# Altium integrated library Xilinx CoolRunner II.IntLib: 198 symbols (part 3 of 13)
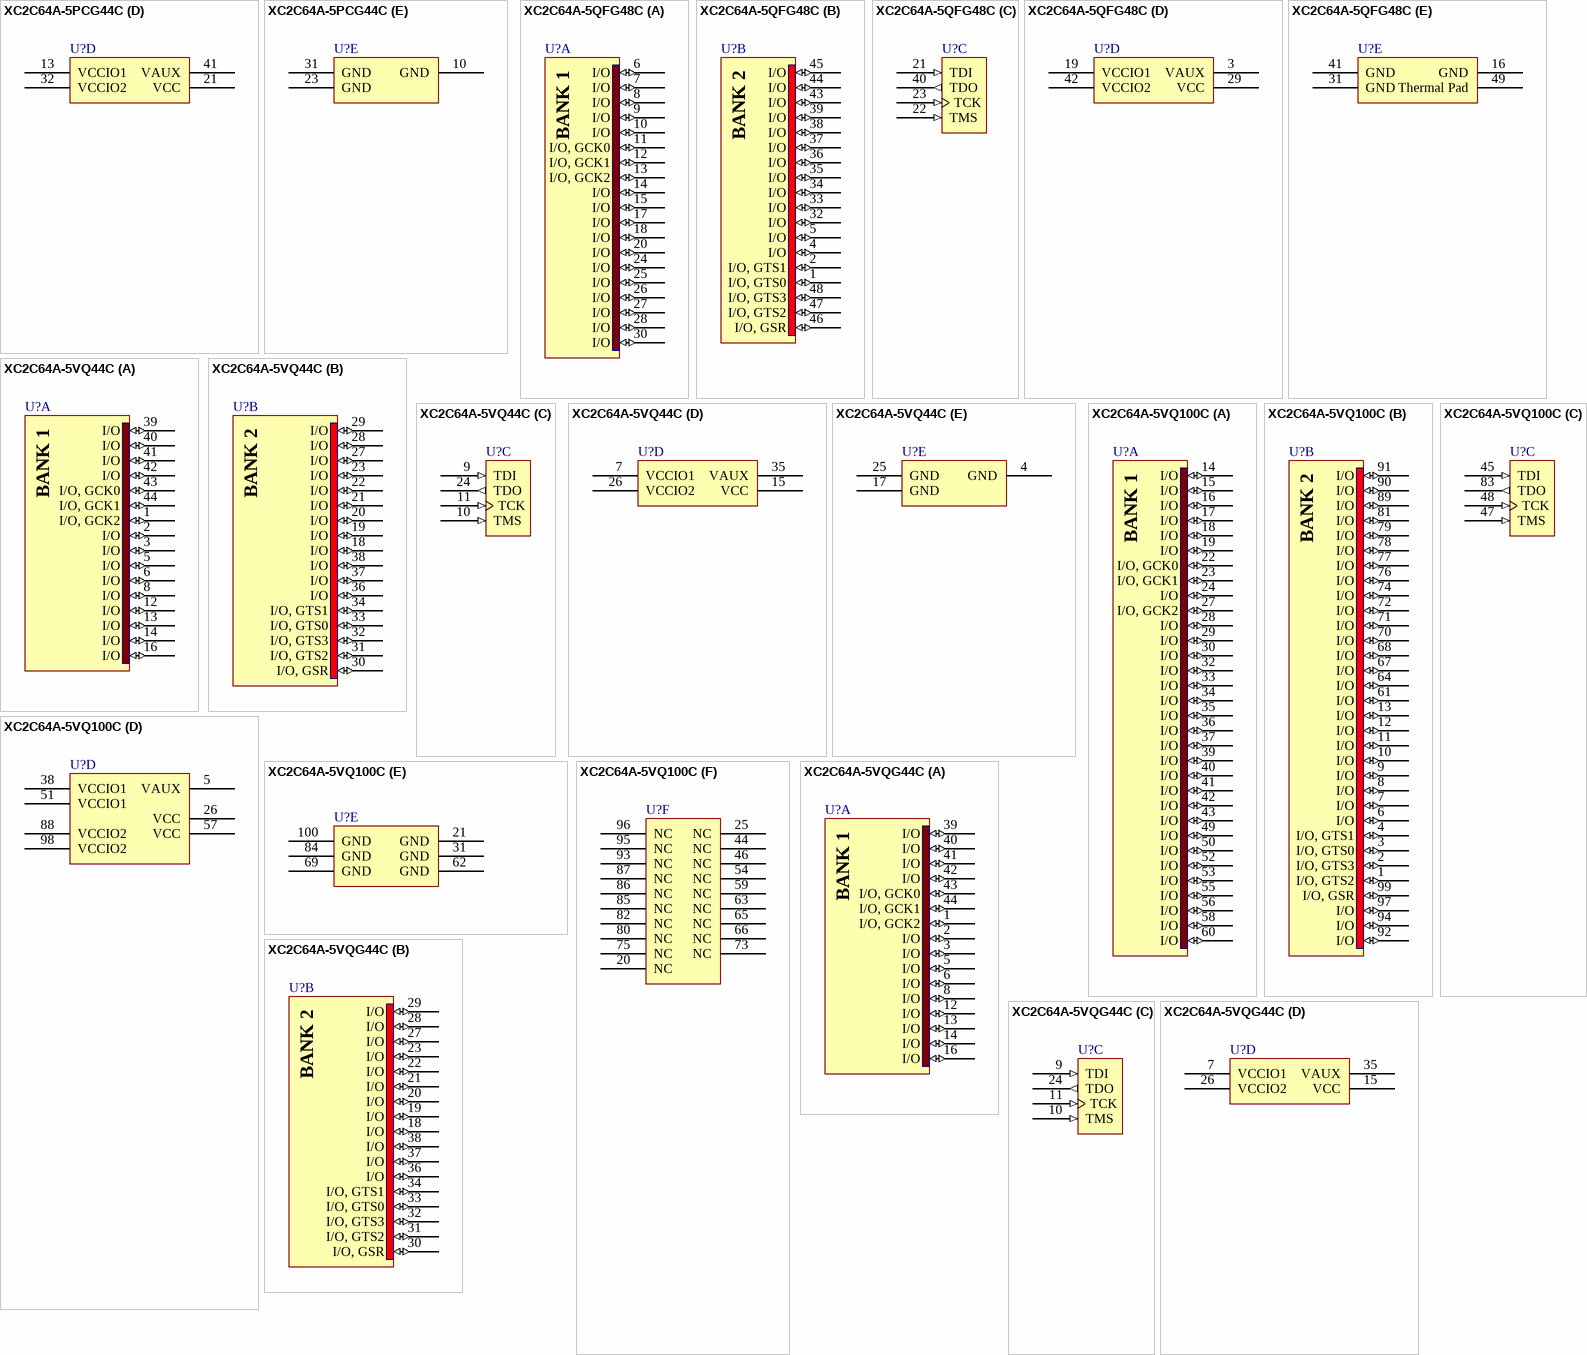
[diagram p104: symbols XC2C64A-5PCG44C to XC2C64A-5VQG44C]

## XC2C64A-5VQ100C
designator U?
CoolRunner-II 1.8V, 64 Macrocell CPLD, 64 User I/Os, 100-Pin VQFP, Commercial Grade; DatasheetVersion: ver2.3, Nov-2008; PackageVersion: ver1.2.1, Feb-2007; PackageReference: VQ100; PackageDescription: 100-Pin Very Thin Quad Flat Pack (VQ100); Code_JEDEC: MS-026-AED; ComponentLink1Description: Manufacturer URL; ComponentLink1URL: http://www.xilinx.com/; ComponentLink2Description: XC2C64A Datasheet; ComponentLink2URL: http://www.xilinx.com/support/documentation/data_sheets/ds311.pdf; ComponentLink3Description: VQ100 Package Drawing; ComponentLink3URL: http://www.xilinx.com/support/documentation/package_specs/vq100.pdf; ComponentLink4Description: CoolRunner-II Documents; ComponentLink4URL: http://www.xilinx.com/support/documentation/coolrunner-ii.htm
footprint VQ100_N (Thin QFP, 100-Leads, Body 14x14mm, Pitch 0.5mm, IPC Medium Density)
footprint VQ100_L (Thin QFP, 100-Leads, Body 14x14mm, Pitch 0.5mm, IPC High Density)
footprint VQ100_M (Thin QFP, 100-Leads, Body 14x14mm, Pitch 0.5mm, IPC Low Density)
part A pins: 14 I/O (io), 15 I/O (io), 16 I/O (io), 17 I/O (io), 18 I/O (io), 19 I/O (io), 22 I/O, GCK0 (io), 23 I/O, GCK1 (io), 24 I/O (io), 27 I/O, GCK2 (io), 28 I/O (io), 29 I/O (io), 30 I/O (io), 32 I/O (io), 33 I/O (io), 34 I/O (io), 35 I/O (io), 36 I/O (io), 37 I/O (io), 39 I/O (io), 40 I/O (io), 41 I/O (io), 42 I/O (io), 43 I/O (io), 49 I/O (io), 50 I/O (io), 52 I/O (io), 53 I/O (io), 55 I/O (io), 56 I/O (io), 58 I/O (io), 60 I/O (io)
part B pins: 1 I/O, GTS2 (io), 2 I/O, GTS3 (io), 3 I/O, GTS0 (io), 4 I/O, GTS1 (io), 6 I/O (io), 7 I/O (io), 8 I/O (io), 9 I/O (io), 10 I/O (io), 11 I/O (io), 12 I/O (io), 13 I/O (io), 61 I/O (io), 64 I/O (io), 67 I/O (io), 68 I/O (io), 70 I/O (io), 71 I/O (io), 72 I/O (io), 74 I/O (io), 76 I/O (io), 77 I/O (io), 78 I/O (io), 79 I/O (io), 81 I/O (io), 89 I/O (io), 90 I/O (io), 91 I/O (io), 92 I/O (io), 94 I/O (io), 97 I/O (io), 99 I/O, GSR (io)
part C pins: 45 TDI (in), 47 TMS (in), 48 TCK (in), 83 TDO (out)
part D pins: 5 VAUX (power), 26 VCC (power), 38 VCCIO1 (power), 51 VCCIO1 (power), 57 VCC (power), 88 VCCIO2 (power), 98 VCCIO2 (power)
part E pins: 21 GND (power), 31 GND (power), 62 GND (power), 69 GND (power), 84 GND (power), 100 GND (power)
part F pins: 20 NC, 25 NC, 44 NC, 46 NC, 54 NC, 59 NC, 63 NC, 65 NC, 66 NC, 73 NC, 75 NC, 80 NC, 82 NC, 85 NC, 86 NC, 87 NC, 93 NC, 95 NC, 96 NC
part A text: BANK 1
part B text: BANK 2

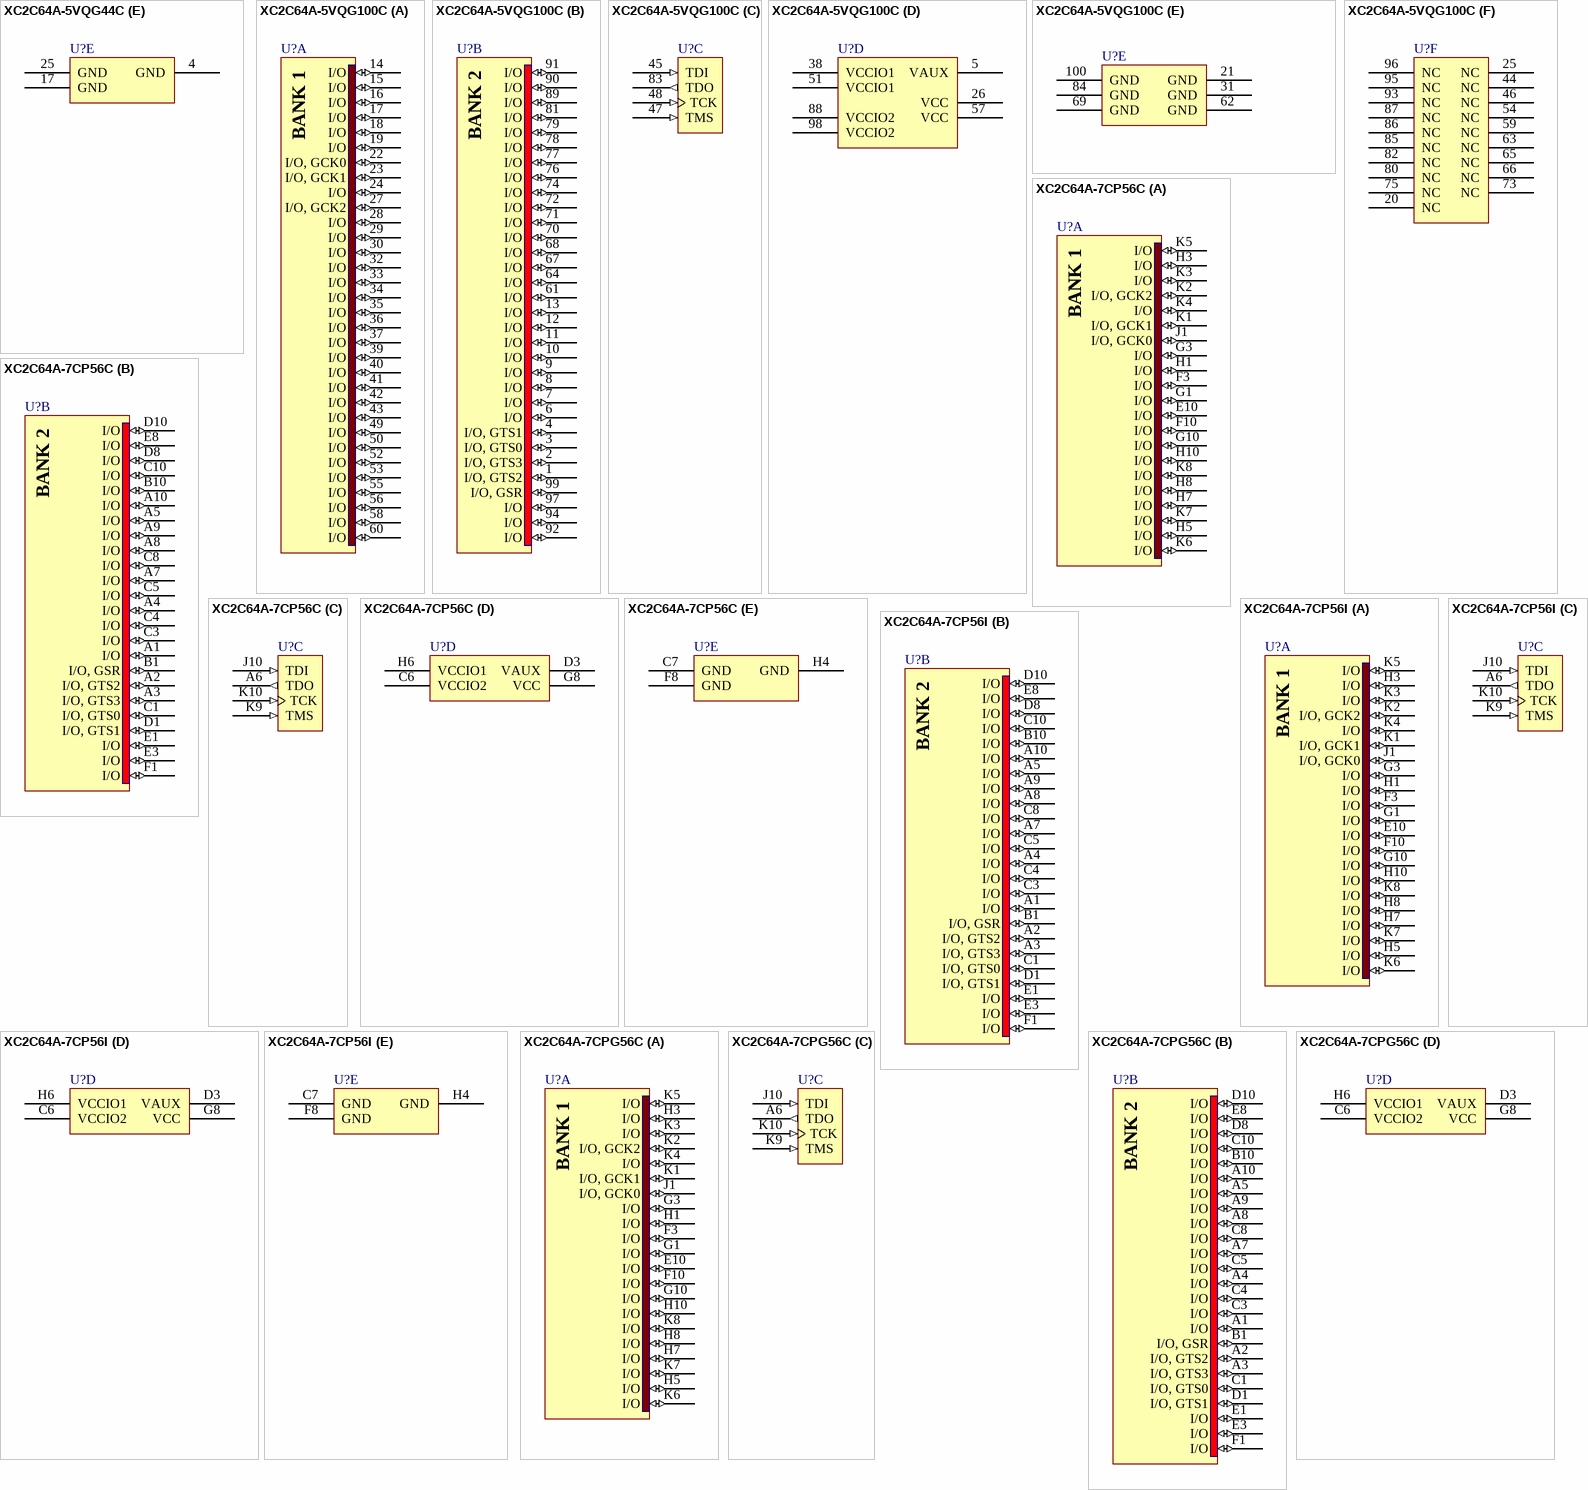
[diagram p12: symbols XC2C64A-5VQG44C to XC2C64A-7CPG56C]

## XC2C64A-5VQG44C
designator U?
CoolRunner-II 1.8V, 64 Macrocell CPLD, 33 User I/Os, 44-Pin VQFP, Commercial Grade, Pb-Free; DatasheetVersion: ver2.3, Nov-2008; PackageVersion: ver1.2, Jun-2004; PackageReference: VQG44; PackageDescription: 44-Pin Very Thin Quad Flat Pack (VQG44) - Pb-Free; Code_JEDEC: MS-026-ACB; ComponentLink1Description: Manufacturer URL; ComponentLink1URL: http://www.xilinx.com/; ComponentLink2Description: XC2C64A Datasheet; ComponentLink2URL: http://www.xilinx.com/support/documentation/data_sheets/ds311.pdf; ComponentLink3Description: VQG44 Package Drawing; ComponentLink3URL: http://www.xilinx.com/support/documentation/package_specs/vq44.pdf; ComponentLink4Description: CoolRunner-II Documents; ComponentLink4URL: http://www.xilinx.com/support/documentation/coolrunner-ii.htm
footprint VQG44_N (Thin QFP, 44-Leads, Body 10x10mm, Pitch 0.8mm, IPC Medium Density)
footprint VQG44_L (Thin QFP, 44-Leads, Body 10x10mm, Pitch 0.8mm, IPC High Density)
footprint VQG44_M (Thin QFP, 44-Leads, Body 10x10mm, Pitch 0.8mm, IPC Low Density)
part A pins: 1 I/O, GCK2 (io), 2 I/O (io), 3 I/O (io), 5 I/O (io), 6 I/O (io), 8 I/O (io), 12 I/O (io), 13 I/O (io), 14 I/O (io), 16 I/O (io), 39 I/O (io), 40 I/O (io), 41 I/O (io), 42 I/O (io), 43 I/O, GCK0 (io), 44 I/O, GCK1 (io)
part B pins: 18 I/O (io), 19 I/O (io), 20 I/O (io), 21 I/O (io), 22 I/O (io), 23 I/O (io), 27 I/O (io), 28 I/O (io), 29 I/O (io), 30 I/O, GSR (io), 31 I/O, GTS2 (io), 32 I/O, GTS3 (io), 33 I/O, GTS0 (io), 34 I/O, GTS1 (io), 36 I/O (io), 37 I/O (io), 38 I/O (io)
part C pins: 9 TDI (in), 10 TMS (in), 11 TCK (in), 24 TDO (out)
part D pins: 7 VCCIO1 (power), 15 VCC (power), 26 VCCIO2 (power), 35 VAUX (power)
part E pins: 4 GND (power), 17 GND (power), 25 GND (power)
part A text: BANK 1
part B text: BANK 2

## XC2C64A-5VQG100C
designator U?
CoolRunner-II 1.8V, 64 Macrocell CPLD, 64 User I/Os, 100-Pin VQFP, Commercial Grade, Pb-Free; DatasheetVersion: ver2.3, Nov-2008; PackageVersion: ver1.2.1, Feb-2007; PackageReference: VQG100; PackageDescription: 100-Pin Very Thin Quad Flat Pack (VQG100) - Pb-Free; Code_JEDEC: MS-026-AED; ComponentLink1Description: Manufacturer URL; ComponentLink1URL: http://www.xilinx.com/; ComponentLink2Description: XC2C64A Datasheet; ComponentLink2URL: http://www.xilinx.com/support/documentation/data_sheets/ds311.pdf; ComponentLink3Description: VQG100 Package Drawing; ComponentLink3URL: http://www.xilinx.com/support/documentation/package_specs/vq100.pdf; ComponentLink4Description: CoolRunner-II Documents; ComponentLink4URL: http://www.xilinx.com/support/documentation/coolrunner-ii.htm
footprint VQG100_N (Thin QFP, 100-Leads, Body 14x14mm, Pitch 0.5mm, IPC Medium Density)
footprint VQG100_L (Thin QFP, 100-Leads, Body 14x14mm, Pitch 0.5mm, IPC High Density)
footprint VQG100_M (Thin QFP, 100-Leads, Body 14x14mm, Pitch 0.5mm, IPC Low Density)
part A pins: 14 I/O (io), 15 I/O (io), 16 I/O (io), 17 I/O (io), 18 I/O (io), 19 I/O (io), 22 I/O, GCK0 (io), 23 I/O, GCK1 (io), 24 I/O (io), 27 I/O, GCK2 (io), 28 I/O (io), 29 I/O (io), 30 I/O (io), 32 I/O (io), 33 I/O (io), 34 I/O (io), 35 I/O (io), 36 I/O (io), 37 I/O (io), 39 I/O (io), 40 I/O (io), 41 I/O (io), 42 I/O (io), 43 I/O (io), 49 I/O (io), 50 I/O (io), 52 I/O (io), 53 I/O (io), 55 I/O (io), 56 I/O (io), 58 I/O (io), 60 I/O (io)
part B pins: 1 I/O, GTS2 (io), 2 I/O, GTS3 (io), 3 I/O, GTS0 (io), 4 I/O, GTS1 (io), 6 I/O (io), 7 I/O (io), 8 I/O (io), 9 I/O (io), 10 I/O (io), 11 I/O (io), 12 I/O (io), 13 I/O (io), 61 I/O (io), 64 I/O (io), 67 I/O (io), 68 I/O (io), 70 I/O (io), 71 I/O (io), 72 I/O (io), 74 I/O (io), 76 I/O (io), 77 I/O (io), 78 I/O (io), 79 I/O (io), 81 I/O (io), 89 I/O (io), 90 I/O (io), 91 I/O (io), 92 I/O (io), 94 I/O (io), 97 I/O (io), 99 I/O, GSR (io)
part C pins: 45 TDI (in), 47 TMS (in), 48 TCK (in), 83 TDO (out)
part D pins: 5 VAUX (power), 26 VCC (power), 38 VCCIO1 (power), 51 VCCIO1 (power), 57 VCC (power), 88 VCCIO2 (power), 98 VCCIO2 (power)
part E pins: 21 GND (power), 31 GND (power), 62 GND (power), 69 GND (power), 84 GND (power), 100 GND (power)
part F pins: 20 NC, 25 NC, 44 NC, 46 NC, 54 NC, 59 NC, 63 NC, 65 NC, 66 NC, 73 NC, 75 NC, 80 NC, 82 NC, 85 NC, 86 NC, 87 NC, 93 NC, 95 NC, 96 NC
part A text: BANK 1
part B text: BANK 2

## XC2C64A-7CP56C
designator U?
CoolRunner-II 1.8V, 64 Macrocell CPLD, 45 User I/Os, 56-Ball CSP, Commercial Grade; DatasheetVersion: ver2.3, Nov-2008; PackageVersion: ver1.3, Jul-2008; PackageReference: CP56; PackageDescription: 56-Ball Chip Scale Ball Grid Array 0.5 mm Pitch (CP56); ComponentLink1Description: Manufacturer URL; ComponentLink1URL: http://www.xilinx.com/; ComponentLink2Description: XC2C64A Datasheet; ComponentLink2URL: http://www.xilinx.com/support/documentation/data_sheets/ds311.pdf; ComponentLink3Description: CP56 Package Drawing; ComponentLink3URL: http://www.xilinx.com/support/documentation/package_specs/cp56.pdf; ComponentLink4Description: CoolRunner-II Documents; ComponentLink4URL: http://www.xilinx.com/support/documentation/coolrunner-ii.htm
footprint CP56 (BGA, 56-Leads, Body 6x6mm, Pitch 0.5mm)
part A pins: E10 I/O (io), F3 I/O (io), F10 I/O (io), G1 I/O (io), G3 I/O (io), G10 I/O (io), H1 I/O (io), H3 I/O (io), H5 I/O (io), H7 I/O (io), H8 I/O (io), H10 I/O (io), J1 I/O, GCK0 (io), K1 I/O, GCK1 (io), K2 I/O, GCK2 (io), K3 I/O (io), K4 I/O (io), K5 I/O (io), K6 I/O (io), K7 I/O (io), K8 I/O (io)
part B pins: A1 I/O (io), A2 I/O, GTS2 (io), A3 I/O, GTS3 (io), A4 I/O (io), A5 I/O (io), A7 I/O (io), A8 I/O (io), A9 I/O (io), A10 I/O (io), B1 I/O, GSR (io), B10 I/O (io), C1 I/O, GTS0 (io), C3 I/O (io), C4 I/O (io), C5 I/O (io), C8 I/O (io), C10 I/O (io), D1 I/O, GTS1 (io), D8 I/O (io), D10 I/O (io), E1 I/O (io), E3 I/O (io), E8 I/O (io), F1 I/O (io)
part C pins: A6 TDO (out), J10 TDI (in), K9 TMS (in), K10 TCK (in)
part D pins: C6 VCCIO2 (power), D3 VAUX (power), G8 VCC (power), H6 VCCIO1 (power)
part E pins: C7 GND (power), F8 GND (power), H4 GND (power)
part A text: BANK 1
part B text: BANK 2

## XC2C64A-7CP56I
designator U?
CoolRunner-II 1.8V, 64 Macrocell CPLD, 45 User I/Os, 56-Ball CSP, Industrial Grade; DatasheetVersion: ver2.3, Nov-2008; PackageVersion: ver1.3, Jul-2008; PackageReference: CP56; PackageDescription: 56-Ball Chip Scale Ball Grid Array 0.5 mm Pitch (CP56); ComponentLink1Description: Manufacturer URL; ComponentLink1URL: http://www.xilinx.com/; ComponentLink2Description: XC2C64A Datasheet; ComponentLink2URL: http://www.xilinx.com/support/documentation/data_sheets/ds311.pdf; ComponentLink3Description: CP56 Package Drawing; ComponentLink3URL: http://www.xilinx.com/support/documentation/package_specs/cp56.pdf; ComponentLink4Description: CoolRunner-II Documents; ComponentLink4URL: http://www.xilinx.com/support/documentation/coolrunner-ii.htm
footprint CP56 (BGA, 56-Leads, Body 6x6mm, Pitch 0.5mm)
part A pins: E10 I/O (io), F3 I/O (io), F10 I/O (io), G1 I/O (io), G3 I/O (io), G10 I/O (io), H1 I/O (io), H3 I/O (io), H5 I/O (io), H7 I/O (io), H8 I/O (io), H10 I/O (io), J1 I/O, GCK0 (io), K1 I/O, GCK1 (io), K2 I/O, GCK2 (io), K3 I/O (io), K4 I/O (io), K5 I/O (io), K6 I/O (io), K7 I/O (io), K8 I/O (io)
part B pins: A1 I/O (io), A2 I/O, GTS2 (io), A3 I/O, GTS3 (io), A4 I/O (io), A5 I/O (io), A7 I/O (io), A8 I/O (io), A9 I/O (io), A10 I/O (io), B1 I/O, GSR (io), B10 I/O (io), C1 I/O, GTS0 (io), C3 I/O (io), C4 I/O (io), C5 I/O (io), C8 I/O (io), C10 I/O (io), D1 I/O, GTS1 (io), D8 I/O (io), D10 I/O (io), E1 I/O (io), E3 I/O (io), E8 I/O (io), F1 I/O (io)
part C pins: A6 TDO (out), J10 TDI (in), K9 TMS (in), K10 TCK (in)
part D pins: C6 VCCIO2 (power), D3 VAUX (power), G8 VCC (power), H6 VCCIO1 (power)
part E pins: C7 GND (power), F8 GND (power), H4 GND (power)
part A text: BANK 1
part B text: BANK 2

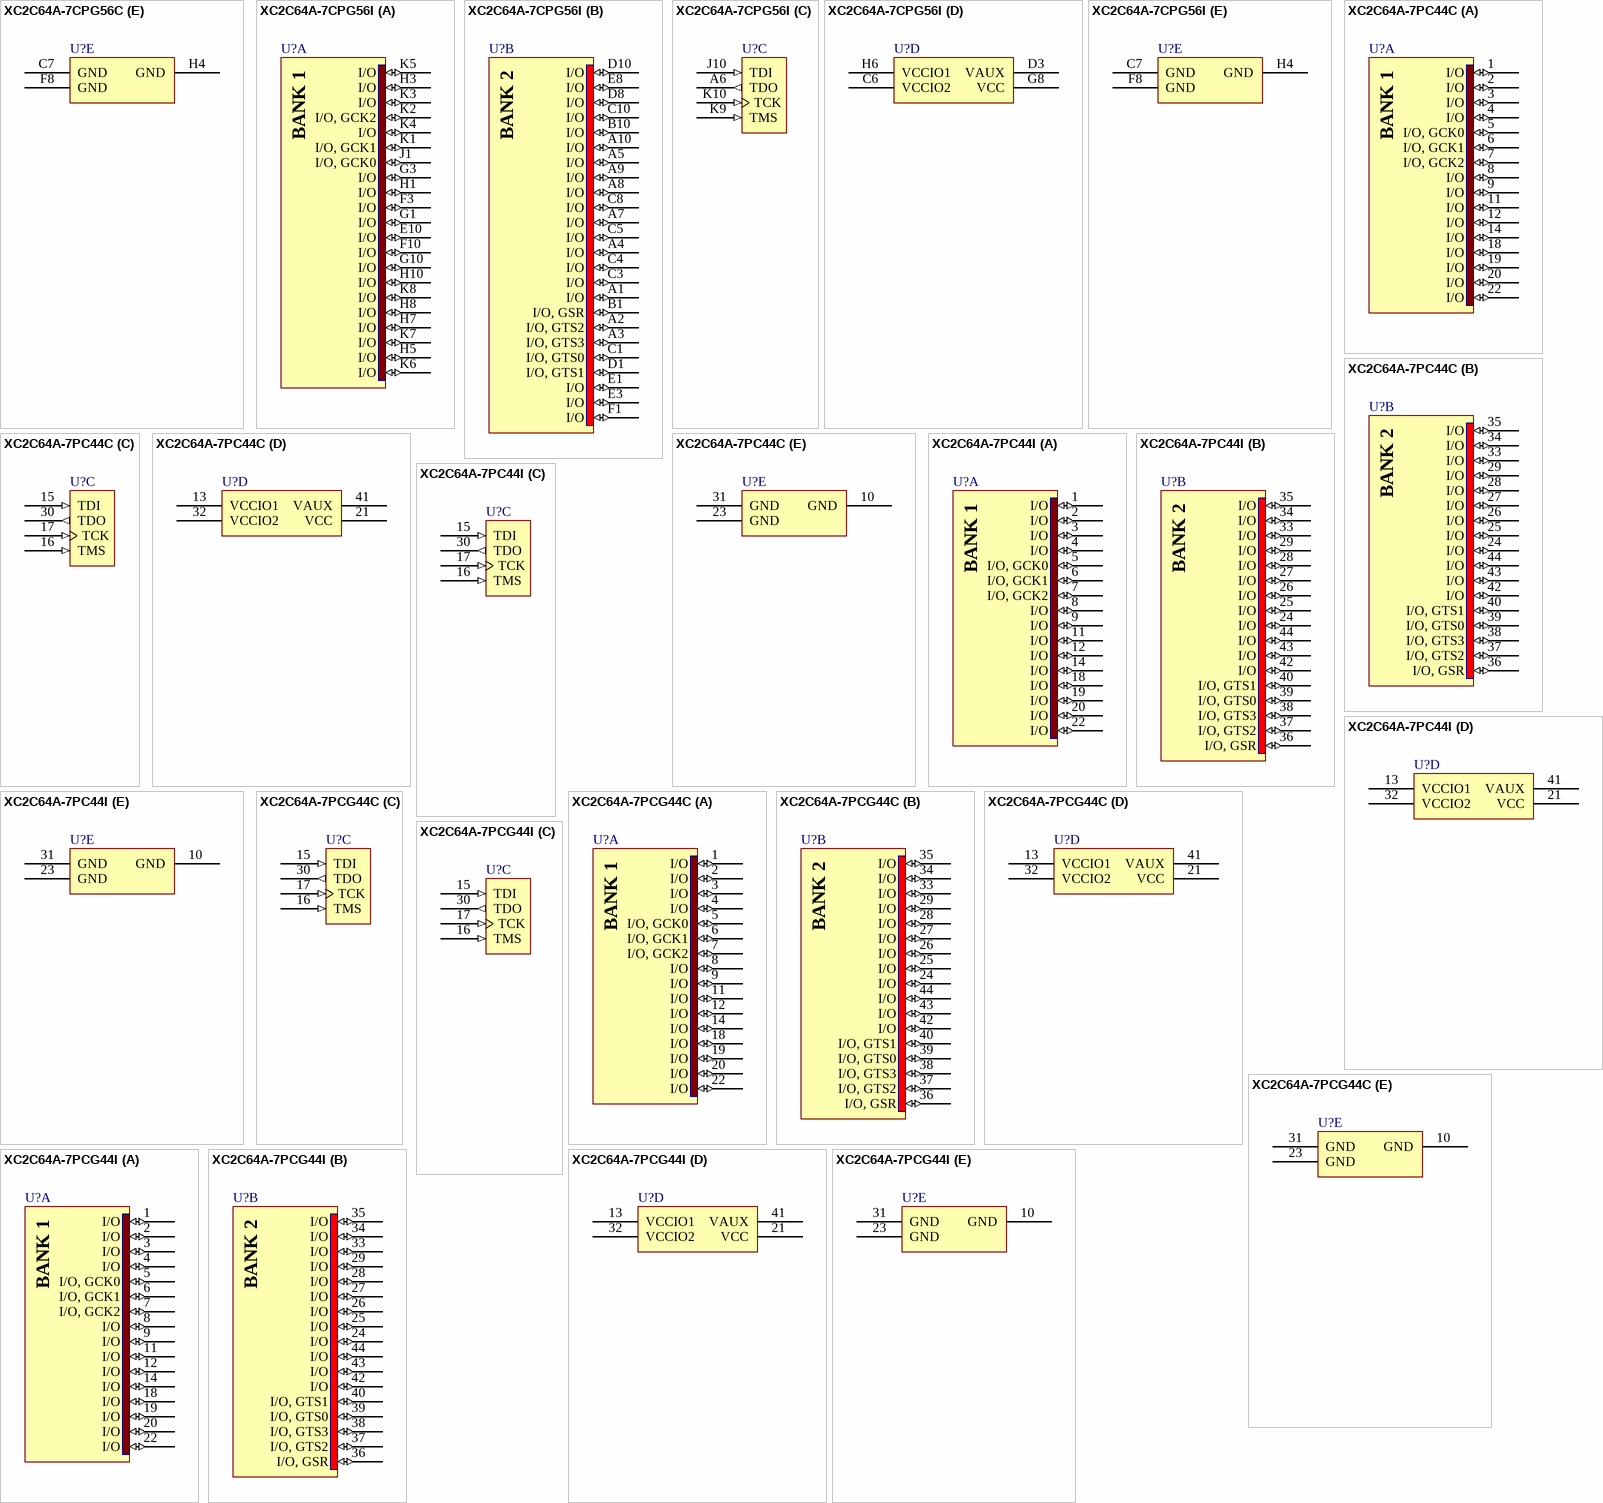
[diagram p13: symbols XC2C64A-7CPG56C to XC2C64A-7PCG44I]

## XC2C64A-7CPG56C
designator U?
CoolRunner-II 1.8V, 64 Macrocell CPLD, 45 User I/Os, 56-Ball CSP, Commercial Grade, Pb-Free; DatasheetVersion: ver2.3, Nov-2008; PackageVersion: ver1.3, Jul-2008; PackageReference: CPG56; PackageDescription: 56-Ball Chip Scale Ball Grid Array 0.5 mm Pitch (CPG56) - Pb-Free; ComponentLink1Description: Manufacturer URL; ComponentLink1URL: http://www.xilinx.com/; ComponentLink2Description: XC2C64A Datasheet; ComponentLink2URL: http://www.xilinx.com/support/documentation/data_sheets/ds311.pdf; ComponentLink3Description: CPG56 Package Drawing; ComponentLink3URL: http://www.xilinx.com/support/documentation/package_specs/cp56.pdf; ComponentLink4Description: CoolRunner-II Documents; ComponentLink4URL: http://www.xilinx.com/support/documentation/coolrunner-ii.htm
footprint CPG56 (BGA, 56-Leads, Body 6x6mm, Pitch 0.5mm)
part A pins: E10 I/O (io), F3 I/O (io), F10 I/O (io), G1 I/O (io), G3 I/O (io), G10 I/O (io), H1 I/O (io), H3 I/O (io), H5 I/O (io), H7 I/O (io), H8 I/O (io), H10 I/O (io), J1 I/O, GCK0 (io), K1 I/O, GCK1 (io), K2 I/O, GCK2 (io), K3 I/O (io), K4 I/O (io), K5 I/O (io), K6 I/O (io), K7 I/O (io), K8 I/O (io)
part B pins: A1 I/O (io), A2 I/O, GTS2 (io), A3 I/O, GTS3 (io), A4 I/O (io), A5 I/O (io), A7 I/O (io), A8 I/O (io), A9 I/O (io), A10 I/O (io), B1 I/O, GSR (io), B10 I/O (io), C1 I/O, GTS0 (io), C3 I/O (io), C4 I/O (io), C5 I/O (io), C8 I/O (io), C10 I/O (io), D1 I/O, GTS1 (io), D8 I/O (io), D10 I/O (io), E1 I/O (io), E3 I/O (io), E8 I/O (io), F1 I/O (io)
part C pins: A6 TDO (out), J10 TDI (in), K9 TMS (in), K10 TCK (in)
part D pins: C6 VCCIO2 (power), D3 VAUX (power), G8 VCC (power), H6 VCCIO1 (power)
part E pins: C7 GND (power), F8 GND (power), H4 GND (power)
part A text: BANK 1
part B text: BANK 2

## XC2C64A-7CPG56I
designator U?
CoolRunner-II 1.8V, 64 Macrocell CPLD, 45 User I/Os, 56-Ball CSP, Industrial Grade, Pb-Free; DatasheetVersion: ver2.3, Nov-2008; PackageVersion: ver1.3, Jul-2008; PackageReference: CPG56; PackageDescription: 56-Ball Chip Scale Ball Grid Array 0.5 mm Pitch (CPG56) - Pb-Free; ComponentLink1Description: Manufacturer URL; ComponentLink1URL: http://www.xilinx.com/; ComponentLink2Description: XC2C64A Datasheet; ComponentLink2URL: http://www.xilinx.com/support/documentation/data_sheets/ds311.pdf; ComponentLink3Description: CPG56 Package Drawing; ComponentLink3URL: http://www.xilinx.com/support/documentation/package_specs/cp56.pdf; ComponentLink4Description: CoolRunner-II Documents; ComponentLink4URL: http://www.xilinx.com/support/documentation/coolrunner-ii.htm
footprint CPG56 (BGA, 56-Leads, Body 6x6mm, Pitch 0.5mm)
part A pins: E10 I/O (io), F3 I/O (io), F10 I/O (io), G1 I/O (io), G3 I/O (io), G10 I/O (io), H1 I/O (io), H3 I/O (io), H5 I/O (io), H7 I/O (io), H8 I/O (io), H10 I/O (io), J1 I/O, GCK0 (io), K1 I/O, GCK1 (io), K2 I/O, GCK2 (io), K3 I/O (io), K4 I/O (io), K5 I/O (io), K6 I/O (io), K7 I/O (io), K8 I/O (io)
part B pins: A1 I/O (io), A2 I/O, GTS2 (io), A3 I/O, GTS3 (io), A4 I/O (io), A5 I/O (io), A7 I/O (io), A8 I/O (io), A9 I/O (io), A10 I/O (io), B1 I/O, GSR (io), B10 I/O (io), C1 I/O, GTS0 (io), C3 I/O (io), C4 I/O (io), C5 I/O (io), C8 I/O (io), C10 I/O (io), D1 I/O, GTS1 (io), D8 I/O (io), D10 I/O (io), E1 I/O (io), E3 I/O (io), E8 I/O (io), F1 I/O (io)
part C pins: A6 TDO (out), J10 TDI (in), K9 TMS (in), K10 TCK (in)
part D pins: C6 VCCIO2 (power), D3 VAUX (power), G8 VCC (power), H6 VCCIO1 (power)
part E pins: C7 GND (power), F8 GND (power), H4 GND (power)
part A text: BANK 1
part B text: BANK 2

## XC2C64A-7PC44C
designator U?
CoolRunner-II, 1.8V, 64 Macrocell CPLD, 44-Pin PLCC, Commercial Grade; DatasheetVersion: ver2.2, Mar-2007; PackageVersion: ver1.2, Jun-2004; PackageReference: PC44; PackageDescription: 44-Pin Plastic Leaded Chip Carrier (PC44); Code_JEDEC: MS-047; Code_IPC: PLCC-44; ComponentLink1Description: Manufacturer URL; ComponentLink1URL: http://www.xilinx.com/; ComponentLink2Description: XC2C64A Datasheet; ComponentLink2URL: http://www.xilinx.com/support/documentation/data_sheets/ds311.pdf; ComponentLink3Description: PC44 Package Drawing; ComponentLink3URL: http://www.xilinx.com/support/documentation/package_specs/pc44.pdf; ComponentLink4Description: CoolRunner-II Documents; ComponentLink4URL: http://www.xilinx.com/support/documentation/coolrunner-ii.htm
footprint PC44_N (Leaded Chip Carrier, 44-Leads, Body 16.6x16.6mm, Pitch 1.27mm, IPC Medium Density)
footprint PC44_L (Leaded Chip Carrier, 44-Leads, Body 16.6x16.6mm, Pitch 1.27mm, IPC High Density)
footprint PC44_M (Leaded Chip Carrier, 44-Leads, Body 16.6x16.6mm, Pitch 1.27mm, IPC Low Density)
part A pins: 1 I/O (io), 2 I/O (io), 3 I/O (io), 4 I/O (io), 5 I/O, GCK0 (io), 6 I/O, GCK1 (io), 7 I/O, GCK2 (io), 8 I/O (io), 9 I/O (io), 11 I/O (io), 12 I/O (io), 14 I/O (io), 18 I/O (io), 19 I/O (io), 20 I/O (io), 22 I/O (io)
part B pins: 24 I/O (io), 25 I/O (io), 26 I/O (io), 27 I/O (io), 28 I/O (io), 29 I/O (io), 33 I/O (io), 34 I/O (io), 35 I/O (io), 36 I/O, GSR (io), 37 I/O, GTS2 (io), 38 I/O, GTS3 (io), 39 I/O, GTS0 (io), 40 I/O, GTS1 (io), 42 I/O (io), 43 I/O (io), 44 I/O (io)
part C pins: 15 TDI (in), 16 TMS (in), 17 TCK (in), 30 TDO (out)
part D pins: 13 VCCIO1 (power), 21 VCC (power), 32 VCCIO2 (power), 41 VAUX (power)
part E pins: 10 GND (power), 23 GND (power), 31 GND (power)
part A text: BANK 1
part B text: BANK 2

## XC2C64A-7PC44I
designator U?
CoolRunner-II, 1.8V, 64 Macrocell CPLD, 44-Pin PLCC, Industrial Grade; DatasheetVersion: ver2.2, Mar-2007; PackageVersion: ver1.2, Jun-2004; PackageReference: PC44; PackageDescription: 44-Pin Plastic Leaded Chip Carrier (PC44); Code_JEDEC: MS-047; Code_IPC: PLCC-44; ComponentLink1Description: Manufacturer URL; ComponentLink1URL: http://www.xilinx.com/; ComponentLink2Description: XC2C64A Datasheet; ComponentLink2URL: http://www.xilinx.com/support/documentation/data_sheets/ds311.pdf; ComponentLink3Description: PC44 Package Drawing; ComponentLink3URL: http://www.xilinx.com/support/documentation/package_specs/pc44.pdf; ComponentLink4Description: CoolRunner-II Documents; ComponentLink4URL: http://www.xilinx.com/support/documentation/coolrunner-ii.htm
footprint PC44_N (Leaded Chip Carrier, 44-Leads, Body 16.6x16.6mm, Pitch 1.27mm, IPC Medium Density)
footprint PC44_L (Leaded Chip Carrier, 44-Leads, Body 16.6x16.6mm, Pitch 1.27mm, IPC High Density)
footprint PC44_M (Leaded Chip Carrier, 44-Leads, Body 16.6x16.6mm, Pitch 1.27mm, IPC Low Density)
part A pins: 1 I/O (io), 2 I/O (io), 3 I/O (io), 4 I/O (io), 5 I/O, GCK0 (io), 6 I/O, GCK1 (io), 7 I/O, GCK2 (io), 8 I/O (io), 9 I/O (io), 11 I/O (io), 12 I/O (io), 14 I/O (io), 18 I/O (io), 19 I/O (io), 20 I/O (io), 22 I/O (io)
part B pins: 24 I/O (io), 25 I/O (io), 26 I/O (io), 27 I/O (io), 28 I/O (io), 29 I/O (io), 33 I/O (io), 34 I/O (io), 35 I/O (io), 36 I/O, GSR (io), 37 I/O, GTS2 (io), 38 I/O, GTS3 (io), 39 I/O, GTS0 (io), 40 I/O, GTS1 (io), 42 I/O (io), 43 I/O (io), 44 I/O (io)
part C pins: 15 TDI (in), 16 TMS (in), 17 TCK (in), 30 TDO (out)
part D pins: 13 VCCIO1 (power), 21 VCC (power), 32 VCCIO2 (power), 41 VAUX (power)
part E pins: 10 GND (power), 23 GND (power), 31 GND (power)
part A text: BANK 1
part B text: BANK 2

## XC2C64A-7PCG44C
designator U?
CoolRunner-II, 1.8V, 64 Macrocell CPLD, 44-Pin PLCC, Pb-Free, Commercial Grade; DatasheetVersion: ver2.2, Mar-2007; PackageVersion: ver1.2, Jun-2004; PackageReference: PCG44; PackageDescription: 44-Pin Plastic Leaded Chip Carrier (PCG44) - Pb-Free; Code_JEDEC: MS-047; Code_IPC: PLCC-44; ComponentLink1Description: Manufacturer URL; ComponentLink1URL: http://www.xilinx.com/; ComponentLink2Description: XC2C64A Datasheet; ComponentLink2URL: http://www.xilinx.com/support/documentation/data_sheets/ds311.pdf; ComponentLink3Description: PCG44 Package Drawing; ComponentLink3URL: http://www.xilinx.com/support/documentation/package_specs/pc44.pdf; ComponentLink4Description: CoolRunner-II Documents; ComponentLink4URL: http://www.xilinx.com/support/documentation/coolrunner-ii.htm
footprint PCG44_N (Leaded Chip Carrier, 44-Leads, Body 16.6x16.6mm, Pitch 1.27mm, IPC Medium Density)
footprint PCG44_L (Leaded Chip Carrier, 44-Leads, Body 16.6x16.6mm, Pitch 1.27mm, IPC High Density)
footprint PCG44_M (Leaded Chip Carrier, 44-Leads, Body 16.6x16.6mm, Pitch 1.27mm, IPC Low Density)
part A pins: 1 I/O (io), 2 I/O (io), 3 I/O (io), 4 I/O (io), 5 I/O, GCK0 (io), 6 I/O, GCK1 (io), 7 I/O, GCK2 (io), 8 I/O (io), 9 I/O (io), 11 I/O (io), 12 I/O (io), 14 I/O (io), 18 I/O (io), 19 I/O (io), 20 I/O (io), 22 I/O (io)
part B pins: 24 I/O (io), 25 I/O (io), 26 I/O (io), 27 I/O (io), 28 I/O (io), 29 I/O (io), 33 I/O (io), 34 I/O (io), 35 I/O (io), 36 I/O, GSR (io), 37 I/O, GTS2 (io), 38 I/O, GTS3 (io), 39 I/O, GTS0 (io), 40 I/O, GTS1 (io), 42 I/O (io), 43 I/O (io), 44 I/O (io)
part C pins: 15 TDI (in), 16 TMS (in), 17 TCK (in), 30 TDO (out)
part D pins: 13 VCCIO1 (power), 21 VCC (power), 32 VCCIO2 (power), 41 VAUX (power)
part E pins: 10 GND (power), 23 GND (power), 31 GND (power)
part A text: BANK 1
part B text: BANK 2

## XC2C64A-7PCG44I
designator U?
CoolRunner-II, 1.8V, 64 Macrocell CPLD, 44-Pin PLCC, Pb-Free, Industrial Grade; DatasheetVersion: ver2.2, Mar-2007; PackageVersion: ver1.2, Jun-2004; PackageReference: PCG44; PackageDescription: 44-Pin Plastic Leaded Chip Carrier (PCG44) - Pb-Free; Code_JEDEC: MS-047; Code_IPC: PLCC-44; ComponentLink1Description: Manufacturer URL; ComponentLink1URL: http://www.xilinx.com/; ComponentLink2Description: XC2C64A Datasheet; ComponentLink2URL: http://www.xilinx.com/support/documentation/data_sheets/ds311.pdf; ComponentLink3Description: PCG44 Package Drawing; ComponentLink3URL: http://www.xilinx.com/support/documentation/package_specs/pc44.pdf; ComponentLink4Description: CoolRunner-II Documents; ComponentLink4URL: http://www.xilinx.com/support/documentation/coolrunner-ii.htm
footprint PCG44_N (Leaded Chip Carrier, 44-Leads, Body 16.6x16.6mm, Pitch 1.27mm, IPC Medium Density)
footprint PCG44_L (Leaded Chip Carrier, 44-Leads, Body 16.6x16.6mm, Pitch 1.27mm, IPC High Density)
footprint PCG44_M (Leaded Chip Carrier, 44-Leads, Body 16.6x16.6mm, Pitch 1.27mm, IPC Low Density)
part A pins: 1 I/O (io), 2 I/O (io), 3 I/O (io), 4 I/O (io), 5 I/O, GCK0 (io), 6 I/O, GCK1 (io), 7 I/O, GCK2 (io), 8 I/O (io), 9 I/O (io), 11 I/O (io), 12 I/O (io), 14 I/O (io), 18 I/O (io), 19 I/O (io), 20 I/O (io), 22 I/O (io)
part B pins: 24 I/O (io), 25 I/O (io), 26 I/O (io), 27 I/O (io), 28 I/O (io), 29 I/O (io), 33 I/O (io), 34 I/O (io), 35 I/O (io), 36 I/O, GSR (io), 37 I/O, GTS2 (io), 38 I/O, GTS3 (io), 39 I/O, GTS0 (io), 40 I/O, GTS1 (io), 42 I/O (io), 43 I/O (io), 44 I/O (io)
part C pins: 15 TDI (in), 16 TMS (in), 17 TCK (in), 30 TDO (out)
part D pins: 13 VCCIO1 (power), 21 VCC (power), 32 VCCIO2 (power), 41 VAUX (power)
part E pins: 10 GND (power), 23 GND (power), 31 GND (power)
part A text: BANK 1
part B text: BANK 2

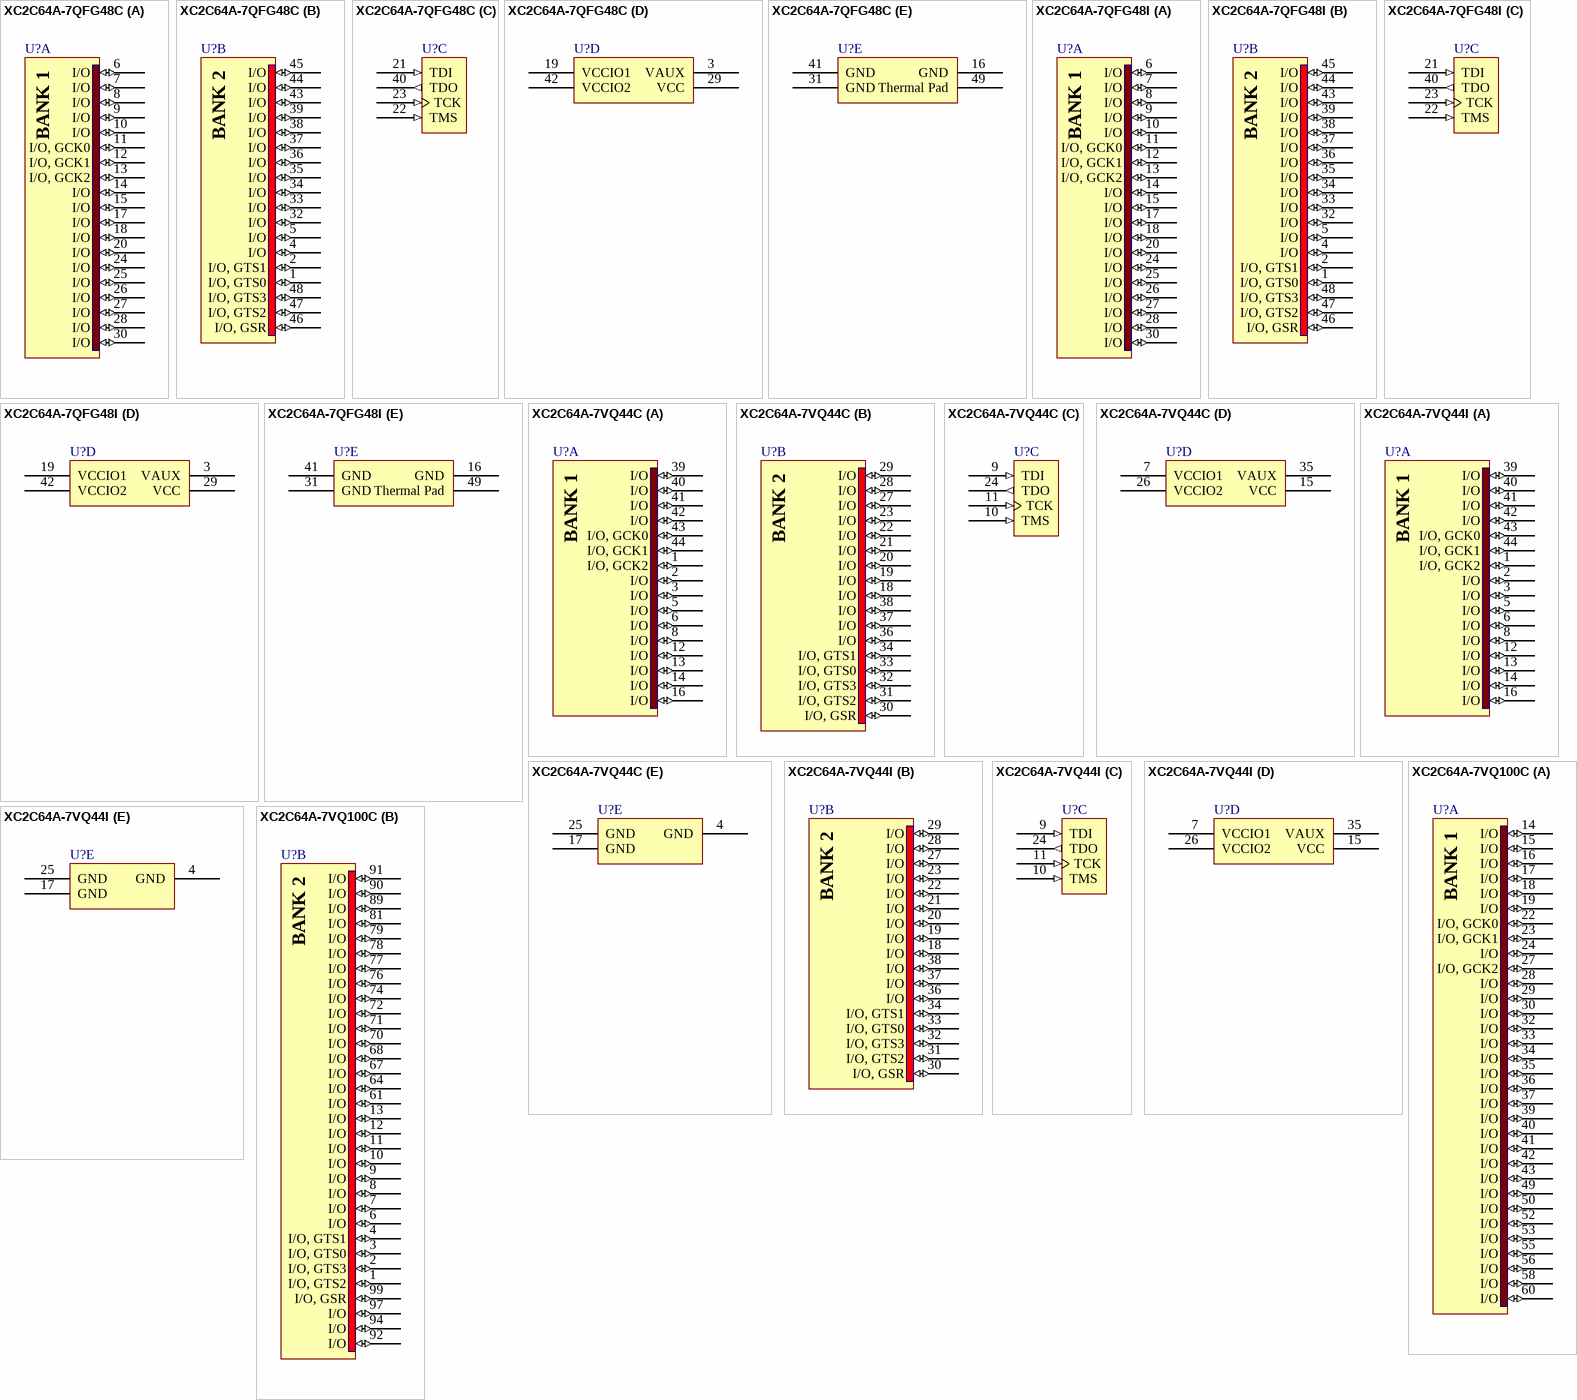
[diagram p14: symbols XC2C64A-7QFG48C to XC2C64A-7VQ100C]

## XC2C64A-7QFG48C
designator U?
CoolRunner-II 1.8V, 64 Macrocell CPLD, 37 User I/Os, 48-Pin QFNL, Commercial Grade, Pb-Free; DatasheetVersion: ver2.3, Nov-2008; PackageVersion: ver1.0, Aug-2004; PackageReference: QFG48; PackageDescription: 48-Pin Quad Flat No-Lead (QFG48) - Pb-Free; Code_JEDEC: MO-220; ComponentLink1Description: Manufacturer URL; ComponentLink1URL: http://www.xilinx.com/; ComponentLink2Description: XC2C64A Datasheet; ComponentLink2URL: http://www.xilinx.com/support/documentation/data_sheets/ds311.pdf; ComponentLink3Description: QFG48 Package Drawing; ComponentLink3URL: http://www.xilinx.com/support/documentation/package_specs/qfg48.pdf; ComponentLink4Description: CoolRunner-II Documents; ComponentLink4URL: http://www.xilinx.com/support/documentation/coolrunner-ii.htm
footprint QFG48_N (QFN, 48-Leads, Body 7x7mm, Pitch 0.5mm, Thermal Pad 5.3x5.3mm, IPC Medium Density)
footprint QFG48_L (QFN, 48-Leads, Body 7x7mm, Pitch 0.5mm, Thermal Pad 5.3x5.3mm, IPC High Density)
footprint QFG48_M (QFN, 48-Leads, Body 7x7mm, Pitch 0.5mm, Thermal Pad 5.3x5.3mm, IPC Low Density)
part A pins: 6 I/O (io), 7 I/O (io), 8 I/O (io), 9 I/O (io), 10 I/O (io), 11 I/O, GCK0 (io), 12 I/O, GCK1 (io), 13 I/O, GCK2 (io), 14 I/O (io), 15 I/O (io), 17 I/O (io), 18 I/O (io), 20 I/O (io), 24 I/O (io), 25 I/O (io), 26 I/O (io), 27 I/O (io), 28 I/O (io), 30 I/O (io)
part B pins: 1 I/O, GTS0 (io), 2 I/O, GTS1 (io), 4 I/O (io), 5 I/O (io), 32 I/O (io), 33 I/O (io), 34 I/O (io), 35 I/O (io), 36 I/O (io), 37 I/O (io), 38 I/O (io), 39 I/O (io), 43 I/O (io), 44 I/O (io), 45 I/O (io), 46 I/O, GSR (io), 47 I/O, GTS2 (io), 48 I/O, GTS3 (io)
part C pins: 21 TDI (in), 22 TMS (in), 23 TCK (in), 40 TDO (out)
part D pins: 3 VAUX (power), 19 VCCIO1 (power), 29 VCC (power), 42 VCCIO2 (power)
part E pins: 16 GND (power), 31 GND (power), 41 GND (power), 49 Thermal Pad (power)
part A text: BANK 1
part B text: BANK 2

## XC2C64A-7QFG48I
designator U?
CoolRunner-II 1.8V, 64 Macrocell CPLD, 37 User I/Os, 48-Pin QFNL, Industrial Grade, Pb-Free; DatasheetVersion: ver2.3, Nov-2008; PackageVersion: ver1.0, Aug-2004; PackageReference: QFG48; PackageDescription: 48-Pin Quad Flat No-Lead (QFG48) - Pb-Free; Code_JEDEC: MO-220; ComponentLink1Description: Manufacturer URL; ComponentLink1URL: http://www.xilinx.com/; ComponentLink2Description: XC2C64A Datasheet; ComponentLink2URL: http://www.xilinx.com/support/documentation/data_sheets/ds311.pdf; ComponentLink3Description: QFG48 Package Drawing; ComponentLink3URL: http://www.xilinx.com/support/documentation/package_specs/qfg48.pdf; ComponentLink4Description: CoolRunner-II Documents; ComponentLink4URL: http://www.xilinx.com/support/documentation/coolrunner-ii.htm
footprint QFG48_N (QFN, 48-Leads, Body 7x7mm, Pitch 0.5mm, Thermal Pad 5.3x5.3mm, IPC Medium Density)
footprint QFG48_L (QFN, 48-Leads, Body 7x7mm, Pitch 0.5mm, Thermal Pad 5.3x5.3mm, IPC High Density)
footprint QFG48_M (QFN, 48-Leads, Body 7x7mm, Pitch 0.5mm, Thermal Pad 5.3x5.3mm, IPC Low Density)
part A pins: 6 I/O (io), 7 I/O (io), 8 I/O (io), 9 I/O (io), 10 I/O (io), 11 I/O, GCK0 (io), 12 I/O, GCK1 (io), 13 I/O, GCK2 (io), 14 I/O (io), 15 I/O (io), 17 I/O (io), 18 I/O (io), 20 I/O (io), 24 I/O (io), 25 I/O (io), 26 I/O (io), 27 I/O (io), 28 I/O (io), 30 I/O (io)
part B pins: 1 I/O, GTS0 (io), 2 I/O, GTS1 (io), 4 I/O (io), 5 I/O (io), 32 I/O (io), 33 I/O (io), 34 I/O (io), 35 I/O (io), 36 I/O (io), 37 I/O (io), 38 I/O (io), 39 I/O (io), 43 I/O (io), 44 I/O (io), 45 I/O (io), 46 I/O, GSR (io), 47 I/O, GTS2 (io), 48 I/O, GTS3 (io)
part C pins: 21 TDI (in), 22 TMS (in), 23 TCK (in), 40 TDO (out)
part D pins: 3 VAUX (power), 19 VCCIO1 (power), 29 VCC (power), 42 VCCIO2 (power)
part E pins: 16 GND (power), 31 GND (power), 41 GND (power), 49 Thermal Pad (power)
part A text: BANK 1
part B text: BANK 2

## XC2C64A-7VQ44C
designator U?
CoolRunner-II 1.8V, 64 Macrocell CPLD, 33 User I/Os, 44-Pin VQFP, Commercial Grade; DatasheetVersion: ver2.3, Nov-2008; PackageVersion: ver1.2, Jun-2004; PackageReference: VQ44; PackageDescription: 44-Pin Very Thin Quad Flat Pack (VQ44); Code_JEDEC: MS-026-ACB; ComponentLink1Description: Manufacturer URL; ComponentLink1URL: http://www.xilinx.com/; ComponentLink2Description: XC2C64A Datasheet; ComponentLink2URL: http://www.xilinx.com/support/documentation/data_sheets/ds311.pdf; ComponentLink3Description: VQ44 Package Drawing; ComponentLink3URL: http://www.xilinx.com/support/documentation/package_specs/vq44.pdf; ComponentLink4Description: CoolRunner-II Documents; ComponentLink4URL: http://www.xilinx.com/support/documentation/coolrunner-ii.htm
footprint VQ44_N (Thin QFP, 44-Leads, Body 10x10mm, Pitch 0.8mm, IPC Medium Density)
footprint VQ44_L (Thin QFP, 44-Leads, Body 10x10mm, Pitch 0.8mm, IPC High Density)
footprint VQ44_M (Thin QFP, 44-Leads, Body 10x10mm, Pitch 0.8mm, IPC Low Density)
part A pins: 1 I/O, GCK2 (io), 2 I/O (io), 3 I/O (io), 5 I/O (io), 6 I/O (io), 8 I/O (io), 12 I/O (io), 13 I/O (io), 14 I/O (io), 16 I/O (io), 39 I/O (io), 40 I/O (io), 41 I/O (io), 42 I/O (io), 43 I/O, GCK0 (io), 44 I/O, GCK1 (io)
part B pins: 18 I/O (io), 19 I/O (io), 20 I/O (io), 21 I/O (io), 22 I/O (io), 23 I/O (io), 27 I/O (io), 28 I/O (io), 29 I/O (io), 30 I/O, GSR (io), 31 I/O, GTS2 (io), 32 I/O, GTS3 (io), 33 I/O, GTS0 (io), 34 I/O, GTS1 (io), 36 I/O (io), 37 I/O (io), 38 I/O (io)
part C pins: 9 TDI (in), 10 TMS (in), 11 TCK (in), 24 TDO (out)
part D pins: 7 VCCIO1 (power), 15 VCC (power), 26 VCCIO2 (power), 35 VAUX (power)
part E pins: 4 GND (power), 17 GND (power), 25 GND (power)
part A text: BANK 1
part B text: BANK 2

## XC2C64A-7VQ44I
designator U?
CoolRunner-II 1.8V, 64 Macrocell CPLD, 33 User I/Os, 44-Pin VQFP, Industrial Grade; DatasheetVersion: ver2.3, Nov-2008; PackageVersion: ver1.2, Jun-2004; PackageReference: VQ44; PackageDescription: 44-Pin Very Thin Quad Flat Pack (VQ44); Code_JEDEC: MS-026-ACB; ComponentLink1Description: Manufacturer URL; ComponentLink1URL: http://www.xilinx.com/; ComponentLink2Description: XC2C64A Datasheet; ComponentLink2URL: http://www.xilinx.com/support/documentation/data_sheets/ds311.pdf; ComponentLink3Description: VQ44 Package Drawing; ComponentLink3URL: http://www.xilinx.com/support/documentation/package_specs/vq44.pdf; ComponentLink4Description: CoolRunner-II Documents; ComponentLink4URL: http://www.xilinx.com/support/documentation/coolrunner-ii.htm
footprint VQ44_N (Thin QFP, 44-Leads, Body 10x10mm, Pitch 0.8mm, IPC Medium Density)
footprint VQ44_L (Thin QFP, 44-Leads, Body 10x10mm, Pitch 0.8mm, IPC High Density)
footprint VQ44_M (Thin QFP, 44-Leads, Body 10x10mm, Pitch 0.8mm, IPC Low Density)
part A pins: 1 I/O, GCK2 (io), 2 I/O (io), 3 I/O (io), 5 I/O (io), 6 I/O (io), 8 I/O (io), 12 I/O (io), 13 I/O (io), 14 I/O (io), 16 I/O (io), 39 I/O (io), 40 I/O (io), 41 I/O (io), 42 I/O (io), 43 I/O, GCK0 (io), 44 I/O, GCK1 (io)
part B pins: 18 I/O (io), 19 I/O (io), 20 I/O (io), 21 I/O (io), 22 I/O (io), 23 I/O (io), 27 I/O (io), 28 I/O (io), 29 I/O (io), 30 I/O, GSR (io), 31 I/O, GTS2 (io), 32 I/O, GTS3 (io), 33 I/O, GTS0 (io), 34 I/O, GTS1 (io), 36 I/O (io), 37 I/O (io), 38 I/O (io)
part C pins: 9 TDI (in), 10 TMS (in), 11 TCK (in), 24 TDO (out)
part D pins: 7 VCCIO1 (power), 15 VCC (power), 26 VCCIO2 (power), 35 VAUX (power)
part E pins: 4 GND (power), 17 GND (power), 25 GND (power)
part A text: BANK 1
part B text: BANK 2

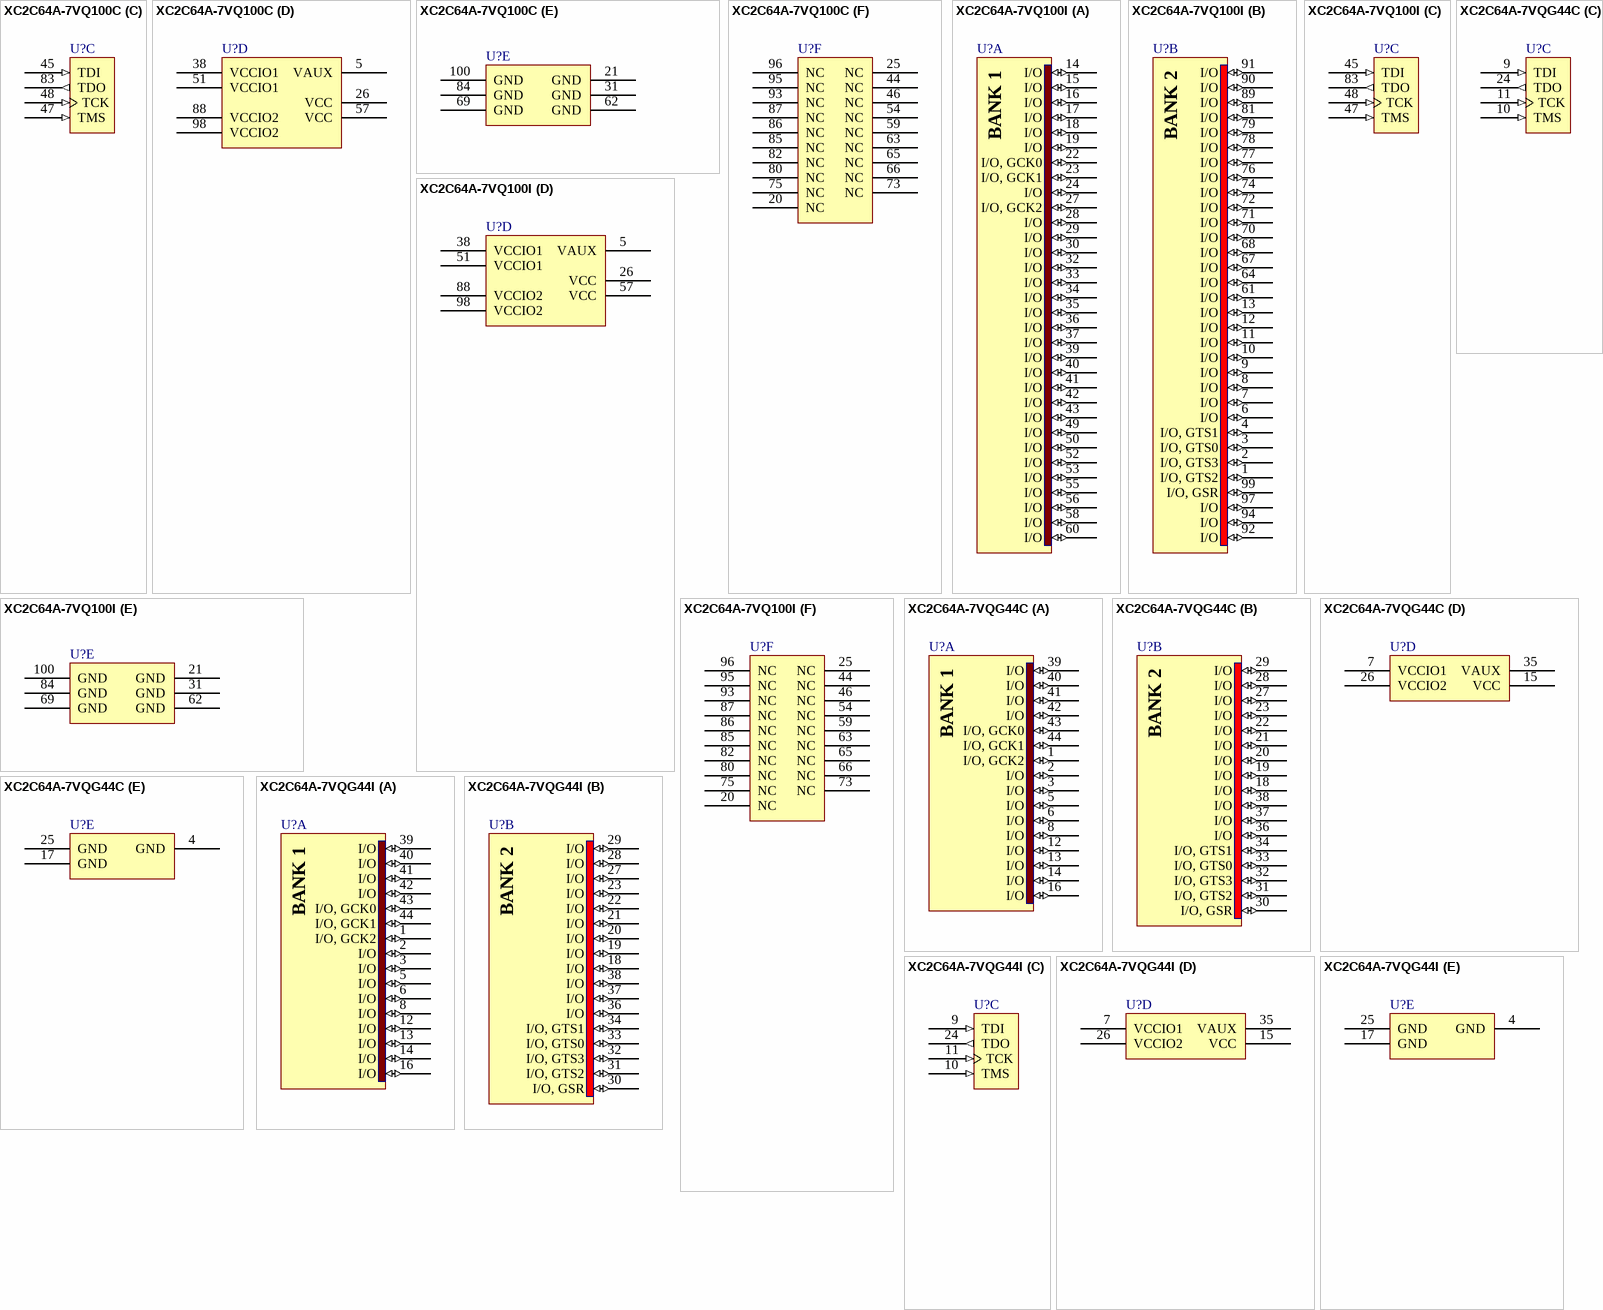
[diagram p15: symbols XC2C64A-7VQ100C to XC2C64A-7VQG44I]

## XC2C64A-7VQ100C
designator U?
CoolRunner-II 1.8V, 64 Macrocell CPLD, 64 User I/Os, 100-Pin VQFP, Commercial Grade; DatasheetVersion: ver2.3, Nov-2008; PackageVersion: ver1.2.1, Feb-2007; PackageReference: VQ100; PackageDescription: 100-Pin Very Thin Quad Flat Pack (VQ100); Code_JEDEC: MS-026-AED; ComponentLink1Description: Manufacturer URL; ComponentLink1URL: http://www.xilinx.com/; ComponentLink2Description: XC2C64A Datasheet; ComponentLink2URL: http://www.xilinx.com/support/documentation/data_sheets/ds311.pdf; ComponentLink3Description: VQ100 Package Drawing; ComponentLink3URL: http://www.xilinx.com/support/documentation/package_specs/vq100.pdf; ComponentLink4Description: CoolRunner-II Documents; ComponentLink4URL: http://www.xilinx.com/support/documentation/coolrunner-ii.htm
footprint VQ100_N (Thin QFP, 100-Leads, Body 14x14mm, Pitch 0.5mm, IPC Medium Density)
footprint VQ100_L (Thin QFP, 100-Leads, Body 14x14mm, Pitch 0.5mm, IPC High Density)
footprint VQ100_M (Thin QFP, 100-Leads, Body 14x14mm, Pitch 0.5mm, IPC Low Density)
part A pins: 14 I/O (io), 15 I/O (io), 16 I/O (io), 17 I/O (io), 18 I/O (io), 19 I/O (io), 22 I/O, GCK0 (io), 23 I/O, GCK1 (io), 24 I/O (io), 27 I/O, GCK2 (io), 28 I/O (io), 29 I/O (io), 30 I/O (io), 32 I/O (io), 33 I/O (io), 34 I/O (io), 35 I/O (io), 36 I/O (io), 37 I/O (io), 39 I/O (io), 40 I/O (io), 41 I/O (io), 42 I/O (io), 43 I/O (io), 49 I/O (io), 50 I/O (io), 52 I/O (io), 53 I/O (io), 55 I/O (io), 56 I/O (io), 58 I/O (io), 60 I/O (io)
part B pins: 1 I/O, GTS2 (io), 2 I/O, GTS3 (io), 3 I/O, GTS0 (io), 4 I/O, GTS1 (io), 6 I/O (io), 7 I/O (io), 8 I/O (io), 9 I/O (io), 10 I/O (io), 11 I/O (io), 12 I/O (io), 13 I/O (io), 61 I/O (io), 64 I/O (io), 67 I/O (io), 68 I/O (io), 70 I/O (io), 71 I/O (io), 72 I/O (io), 74 I/O (io), 76 I/O (io), 77 I/O (io), 78 I/O (io), 79 I/O (io), 81 I/O (io), 89 I/O (io), 90 I/O (io), 91 I/O (io), 92 I/O (io), 94 I/O (io), 97 I/O (io), 99 I/O, GSR (io)
part C pins: 45 TDI (in), 47 TMS (in), 48 TCK (in), 83 TDO (out)
part D pins: 5 VAUX (power), 26 VCC (power), 38 VCCIO1 (power), 51 VCCIO1 (power), 57 VCC (power), 88 VCCIO2 (power), 98 VCCIO2 (power)
part E pins: 21 GND (power), 31 GND (power), 62 GND (power), 69 GND (power), 84 GND (power), 100 GND (power)
part F pins: 20 NC, 25 NC, 44 NC, 46 NC, 54 NC, 59 NC, 63 NC, 65 NC, 66 NC, 73 NC, 75 NC, 80 NC, 82 NC, 85 NC, 86 NC, 87 NC, 93 NC, 95 NC, 96 NC
part A text: BANK 1
part B text: BANK 2

## XC2C64A-7VQ100I
designator U?
CoolRunner-II 1.8V, 64 Macrocell CPLD, 64 User I/Os, 100-Pin VQFP, Industrial Grade; DatasheetVersion: ver2.3, Nov-2008; PackageVersion: ver1.2.1, Feb-2007; PackageReference: VQ100; PackageDescription: 100-Pin Very Thin Quad Flat Pack (VQ100); Code_JEDEC: MS-026-AED; ComponentLink1Description: Manufacturer URL; ComponentLink1URL: http://www.xilinx.com/; ComponentLink2Description: XC2C64A Datasheet; ComponentLink2URL: http://www.xilinx.com/support/documentation/data_sheets/ds311.pdf; ComponentLink3Description: VQ100 Package Drawing; ComponentLink3URL: http://www.xilinx.com/support/documentation/package_specs/vq100.pdf; ComponentLink4Description: CoolRunner-II Documents; ComponentLink4URL: http://www.xilinx.com/support/documentation/coolrunner-ii.htm
footprint VQ100_N (Thin QFP, 100-Leads, Body 14x14mm, Pitch 0.5mm, IPC Medium Density)
footprint VQ100_L (Thin QFP, 100-Leads, Body 14x14mm, Pitch 0.5mm, IPC High Density)
footprint VQ100_M (Thin QFP, 100-Leads, Body 14x14mm, Pitch 0.5mm, IPC Low Density)
part A pins: 14 I/O (io), 15 I/O (io), 16 I/O (io), 17 I/O (io), 18 I/O (io), 19 I/O (io), 22 I/O, GCK0 (io), 23 I/O, GCK1 (io), 24 I/O (io), 27 I/O, GCK2 (io), 28 I/O (io), 29 I/O (io), 30 I/O (io), 32 I/O (io), 33 I/O (io), 34 I/O (io), 35 I/O (io), 36 I/O (io), 37 I/O (io), 39 I/O (io), 40 I/O (io), 41 I/O (io), 42 I/O (io), 43 I/O (io), 49 I/O (io), 50 I/O (io), 52 I/O (io), 53 I/O (io), 55 I/O (io), 56 I/O (io), 58 I/O (io), 60 I/O (io)
part B pins: 1 I/O, GTS2 (io), 2 I/O, GTS3 (io), 3 I/O, GTS0 (io), 4 I/O, GTS1 (io), 6 I/O (io), 7 I/O (io), 8 I/O (io), 9 I/O (io), 10 I/O (io), 11 I/O (io), 12 I/O (io), 13 I/O (io), 61 I/O (io), 64 I/O (io), 67 I/O (io), 68 I/O (io), 70 I/O (io), 71 I/O (io), 72 I/O (io), 74 I/O (io), 76 I/O (io), 77 I/O (io), 78 I/O (io), 79 I/O (io), 81 I/O (io), 89 I/O (io), 90 I/O (io), 91 I/O (io), 92 I/O (io), 94 I/O (io), 97 I/O (io), 99 I/O, GSR (io)
part C pins: 45 TDI (in), 47 TMS (in), 48 TCK (in), 83 TDO (out)
part D pins: 5 VAUX (power), 26 VCC (power), 38 VCCIO1 (power), 51 VCCIO1 (power), 57 VCC (power), 88 VCCIO2 (power), 98 VCCIO2 (power)
part E pins: 21 GND (power), 31 GND (power), 62 GND (power), 69 GND (power), 84 GND (power), 100 GND (power)
part F pins: 20 NC, 25 NC, 44 NC, 46 NC, 54 NC, 59 NC, 63 NC, 65 NC, 66 NC, 73 NC, 75 NC, 80 NC, 82 NC, 85 NC, 86 NC, 87 NC, 93 NC, 95 NC, 96 NC
part A text: BANK 1
part B text: BANK 2

## XC2C64A-7VQG44C
designator U?
CoolRunner-II 1.8V, 64 Macrocell CPLD, 33 User I/Os, 44-Pin VQFP, Commercial Grade, Pb-Free; DatasheetVersion: ver2.3, Nov-2008; PackageVersion: ver1.2, Jun-2004; PackageReference: VQG44; PackageDescription: 44-Pin Very Thin Quad Flat Pack (VQG44) - Pb-Free; Code_JEDEC: MS-026-ACB; ComponentLink1Description: Manufacturer URL; ComponentLink1URL: http://www.xilinx.com/; ComponentLink2Description: XC2C64A Datasheet; ComponentLink2URL: http://www.xilinx.com/support/documentation/data_sheets/ds311.pdf; ComponentLink3Description: VQG44 Package Drawing; ComponentLink3URL: http://www.xilinx.com/support/documentation/package_specs/vq44.pdf; ComponentLink4Description: CoolRunner-II Documents; ComponentLink4URL: http://www.xilinx.com/support/documentation/coolrunner-ii.htm
footprint VQG44_N (Thin QFP, 44-Leads, Body 10x10mm, Pitch 0.8mm, IPC Medium Density)
footprint VQG44_L (Thin QFP, 44-Leads, Body 10x10mm, Pitch 0.8mm, IPC High Density)
footprint VQG44_M (Thin QFP, 44-Leads, Body 10x10mm, Pitch 0.8mm, IPC Low Density)
part A pins: 1 I/O, GCK2 (io), 2 I/O (io), 3 I/O (io), 5 I/O (io), 6 I/O (io), 8 I/O (io), 12 I/O (io), 13 I/O (io), 14 I/O (io), 16 I/O (io), 39 I/O (io), 40 I/O (io), 41 I/O (io), 42 I/O (io), 43 I/O, GCK0 (io), 44 I/O, GCK1 (io)
part B pins: 18 I/O (io), 19 I/O (io), 20 I/O (io), 21 I/O (io), 22 I/O (io), 23 I/O (io), 27 I/O (io), 28 I/O (io), 29 I/O (io), 30 I/O, GSR (io), 31 I/O, GTS2 (io), 32 I/O, GTS3 (io), 33 I/O, GTS0 (io), 34 I/O, GTS1 (io), 36 I/O (io), 37 I/O (io), 38 I/O (io)
part C pins: 9 TDI (in), 10 TMS (in), 11 TCK (in), 24 TDO (out)
part D pins: 7 VCCIO1 (power), 15 VCC (power), 26 VCCIO2 (power), 35 VAUX (power)
part E pins: 4 GND (power), 17 GND (power), 25 GND (power)
part A text: BANK 1
part B text: BANK 2

## XC2C64A-7VQG44I
designator U?
CoolRunner-II 1.8V, 64 Macrocell CPLD, 33 User I/Os, 44-Pin VQFP, Industrial Grade, Pb-Free; DatasheetVersion: ver2.3, Nov-2008; PackageVersion: ver1.2, Jun-2004; PackageReference: VQG44; PackageDescription: 44-Pin Very Thin Quad Flat Pack (VQG44) - Pb-Free; Code_JEDEC: MS-026-ACB; ComponentLink1Description: Manufacturer URL; ComponentLink1URL: http://www.xilinx.com/; ComponentLink2Description: XC2C64A Datasheet; ComponentLink2URL: http://www.xilinx.com/support/documentation/data_sheets/ds311.pdf; ComponentLink3Description: VQG44 Package Drawing; ComponentLink3URL: http://www.xilinx.com/support/documentation/package_specs/vq44.pdf; ComponentLink4Description: CoolRunner-II Documents; ComponentLink4URL: http://www.xilinx.com/support/documentation/coolrunner-ii.htm
footprint VQG44_N (Thin QFP, 44-Leads, Body 10x10mm, Pitch 0.8mm, IPC Medium Density)
footprint VQG44_L (Thin QFP, 44-Leads, Body 10x10mm, Pitch 0.8mm, IPC High Density)
footprint VQG44_M (Thin QFP, 44-Leads, Body 10x10mm, Pitch 0.8mm, IPC Low Density)
part A pins: 1 I/O, GCK2 (io), 2 I/O (io), 3 I/O (io), 5 I/O (io), 6 I/O (io), 8 I/O (io), 12 I/O (io), 13 I/O (io), 14 I/O (io), 16 I/O (io), 39 I/O (io), 40 I/O (io), 41 I/O (io), 42 I/O (io), 43 I/O, GCK0 (io), 44 I/O, GCK1 (io)
part B pins: 18 I/O (io), 19 I/O (io), 20 I/O (io), 21 I/O (io), 22 I/O (io), 23 I/O (io), 27 I/O (io), 28 I/O (io), 29 I/O (io), 30 I/O, GSR (io), 31 I/O, GTS2 (io), 32 I/O, GTS3 (io), 33 I/O, GTS0 (io), 34 I/O, GTS1 (io), 36 I/O (io), 37 I/O (io), 38 I/O (io)
part C pins: 9 TDI (in), 10 TMS (in), 11 TCK (in), 24 TDO (out)
part D pins: 7 VCCIO1 (power), 15 VCC (power), 26 VCCIO2 (power), 35 VAUX (power)
part E pins: 4 GND (power), 17 GND (power), 25 GND (power)
part A text: BANK 1
part B text: BANK 2

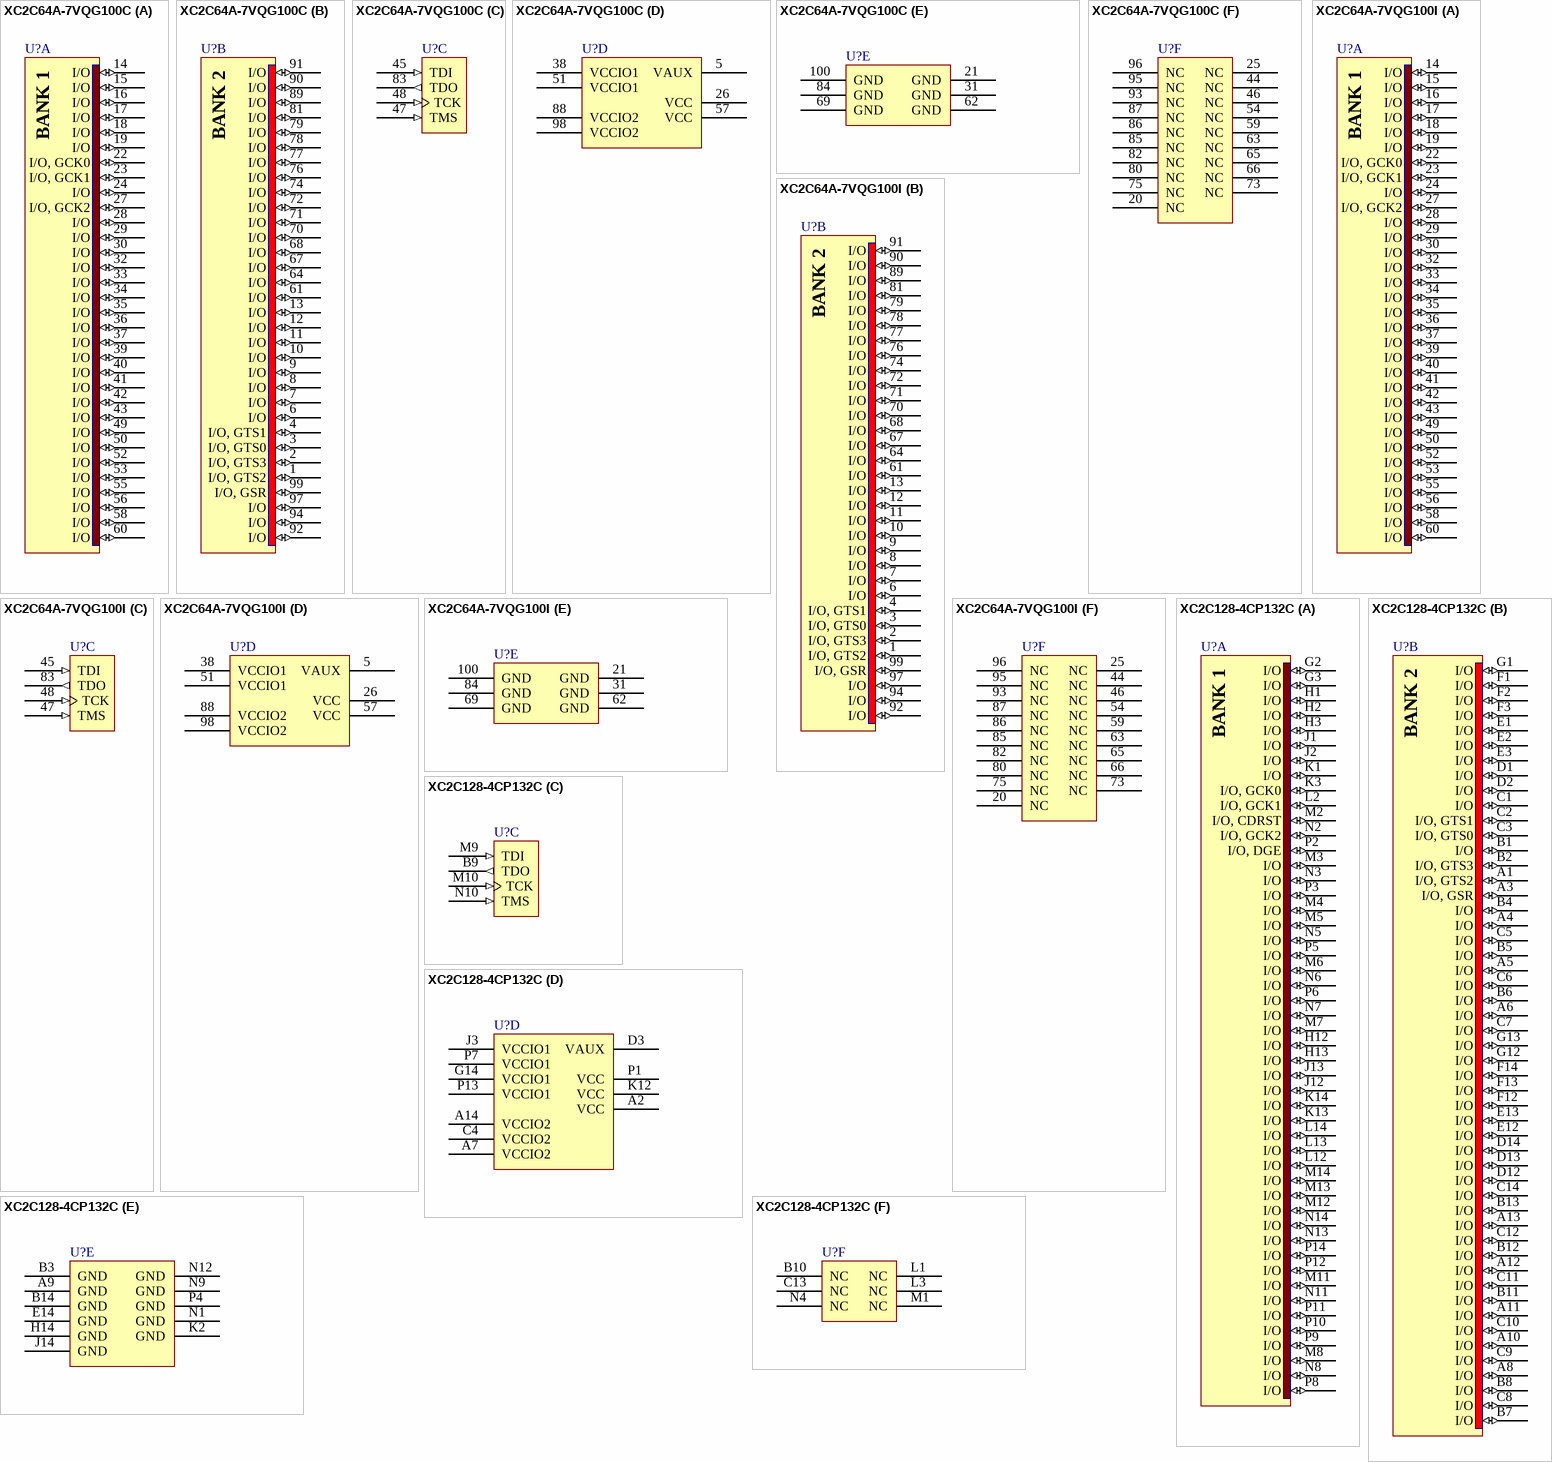
[diagram p16: symbols XC2C64A-7VQG100C to XC2C128-4CP132C]

## XC2C64A-7VQG100C
designator U?
CoolRunner-II 1.8V, 64 Macrocell CPLD, 64 User I/Os, 100-Pin VQFP, Commercial Grade, Pb-Free; DatasheetVersion: ver2.3, Nov-2008; PackageVersion: ver1.2.1, Feb-2007; PackageReference: VQG100; PackageDescription: 100-Pin Very Thin Quad Flat Pack (VQG100) - Pb-Free; Code_JEDEC: MS-026-AED; ComponentLink1Description: Manufacturer URL; ComponentLink1URL: http://www.xilinx.com/; ComponentLink2Description: XC2C64A Datasheet; ComponentLink2URL: http://www.xilinx.com/support/documentation/data_sheets/ds311.pdf; ComponentLink3Description: VQG100 Package Drawing; ComponentLink3URL: http://www.xilinx.com/support/documentation/package_specs/vq100.pdf; ComponentLink4Description: CoolRunner-II Documents; ComponentLink4URL: http://www.xilinx.com/support/documentation/coolrunner-ii.htm
footprint VQG100_N (Thin QFP, 100-Leads, Body 14x14mm, Pitch 0.5mm, IPC Medium Density)
footprint VQG100_L (Thin QFP, 100-Leads, Body 14x14mm, Pitch 0.5mm, IPC High Density)
footprint VQG100_M (Thin QFP, 100-Leads, Body 14x14mm, Pitch 0.5mm, IPC Low Density)
part A pins: 14 I/O (io), 15 I/O (io), 16 I/O (io), 17 I/O (io), 18 I/O (io), 19 I/O (io), 22 I/O, GCK0 (io), 23 I/O, GCK1 (io), 24 I/O (io), 27 I/O, GCK2 (io), 28 I/O (io), 29 I/O (io), 30 I/O (io), 32 I/O (io), 33 I/O (io), 34 I/O (io), 35 I/O (io), 36 I/O (io), 37 I/O (io), 39 I/O (io), 40 I/O (io), 41 I/O (io), 42 I/O (io), 43 I/O (io), 49 I/O (io), 50 I/O (io), 52 I/O (io), 53 I/O (io), 55 I/O (io), 56 I/O (io), 58 I/O (io), 60 I/O (io)
part B pins: 1 I/O, GTS2 (io), 2 I/O, GTS3 (io), 3 I/O, GTS0 (io), 4 I/O, GTS1 (io), 6 I/O (io), 7 I/O (io), 8 I/O (io), 9 I/O (io), 10 I/O (io), 11 I/O (io), 12 I/O (io), 13 I/O (io), 61 I/O (io), 64 I/O (io), 67 I/O (io), 68 I/O (io), 70 I/O (io), 71 I/O (io), 72 I/O (io), 74 I/O (io), 76 I/O (io), 77 I/O (io), 78 I/O (io), 79 I/O (io), 81 I/O (io), 89 I/O (io), 90 I/O (io), 91 I/O (io), 92 I/O (io), 94 I/O (io), 97 I/O (io), 99 I/O, GSR (io)
part C pins: 45 TDI (in), 47 TMS (in), 48 TCK (in), 83 TDO (out)
part D pins: 5 VAUX (power), 26 VCC (power), 38 VCCIO1 (power), 51 VCCIO1 (power), 57 VCC (power), 88 VCCIO2 (power), 98 VCCIO2 (power)
part E pins: 21 GND (power), 31 GND (power), 62 GND (power), 69 GND (power), 84 GND (power), 100 GND (power)
part F pins: 20 NC, 25 NC, 44 NC, 46 NC, 54 NC, 59 NC, 63 NC, 65 NC, 66 NC, 73 NC, 75 NC, 80 NC, 82 NC, 85 NC, 86 NC, 87 NC, 93 NC, 95 NC, 96 NC
part A text: BANK 1
part B text: BANK 2

## XC2C64A-7VQG100I
designator U?
CoolRunner-II 1.8V, 64 Macrocell CPLD, 64 User I/Os, 100-Pin VQFP, Industrial Grade, Pb-Free; DatasheetVersion: ver2.3, Nov-2008; PackageVersion: ver1.2.1, Feb-2007; PackageReference: VQG100; PackageDescription: 100-Pin Very Thin Quad Flat Pack (VQG100) - Pb-Free; Code_JEDEC: MS-026-AED; ComponentLink1Description: Manufacturer URL; ComponentLink1URL: http://www.xilinx.com/; ComponentLink2Description: XC2C64A Datasheet; ComponentLink2URL: http://www.xilinx.com/support/documentation/data_sheets/ds311.pdf; ComponentLink3Description: VQG100 Package Drawing; ComponentLink3URL: http://www.xilinx.com/support/documentation/package_specs/vq100.pdf; ComponentLink4Description: CoolRunner-II Documents; ComponentLink4URL: http://www.xilinx.com/support/documentation/coolrunner-ii.htm
footprint VQG100_N (Thin QFP, 100-Leads, Body 14x14mm, Pitch 0.5mm, IPC Medium Density)
footprint VQG100_L (Thin QFP, 100-Leads, Body 14x14mm, Pitch 0.5mm, IPC High Density)
footprint VQG100_M (Thin QFP, 100-Leads, Body 14x14mm, Pitch 0.5mm, IPC Low Density)
part A pins: 14 I/O (io), 15 I/O (io), 16 I/O (io), 17 I/O (io), 18 I/O (io), 19 I/O (io), 22 I/O, GCK0 (io), 23 I/O, GCK1 (io), 24 I/O (io), 27 I/O, GCK2 (io), 28 I/O (io), 29 I/O (io), 30 I/O (io), 32 I/O (io), 33 I/O (io), 34 I/O (io), 35 I/O (io), 36 I/O (io), 37 I/O (io), 39 I/O (io), 40 I/O (io), 41 I/O (io), 42 I/O (io), 43 I/O (io), 49 I/O (io), 50 I/O (io), 52 I/O (io), 53 I/O (io), 55 I/O (io), 56 I/O (io), 58 I/O (io), 60 I/O (io)
part B pins: 1 I/O, GTS2 (io), 2 I/O, GTS3 (io), 3 I/O, GTS0 (io), 4 I/O, GTS1 (io), 6 I/O (io), 7 I/O (io), 8 I/O (io), 9 I/O (io), 10 I/O (io), 11 I/O (io), 12 I/O (io), 13 I/O (io), 61 I/O (io), 64 I/O (io), 67 I/O (io), 68 I/O (io), 70 I/O (io), 71 I/O (io), 72 I/O (io), 74 I/O (io), 76 I/O (io), 77 I/O (io), 78 I/O (io), 79 I/O (io), 81 I/O (io), 89 I/O (io), 90 I/O (io), 91 I/O (io), 92 I/O (io), 94 I/O (io), 97 I/O (io), 99 I/O, GSR (io)
part C pins: 45 TDI (in), 47 TMS (in), 48 TCK (in), 83 TDO (out)
part D pins: 5 VAUX (power), 26 VCC (power), 38 VCCIO1 (power), 51 VCCIO1 (power), 57 VCC (power), 88 VCCIO2 (power), 98 VCCIO2 (power)
part E pins: 21 GND (power), 31 GND (power), 62 GND (power), 69 GND (power), 84 GND (power), 100 GND (power)
part F pins: 20 NC, 25 NC, 44 NC, 46 NC, 54 NC, 59 NC, 63 NC, 65 NC, 66 NC, 73 NC, 75 NC, 80 NC, 82 NC, 85 NC, 86 NC, 87 NC, 93 NC, 95 NC, 96 NC
part A text: BANK 1
part B text: BANK 2

## XC2C128-4CP132C
designator U?
CoolRunner-II, 1.8V, 128 Macrocell CPLD, 132-Ball CSP, Commercial Grade; DatasheetVersion: ver2.5, Oct-2004; PackageVersion: ver1.3, Jun-2008; PackageReference: CP132; PackageDescription: 132-Ball Chip Scale Ball Grid Array 0.5 mm Pitch (CP132); ComponentLink1Description: Manufacturer URL; ComponentLink1URL: http://www.xilinx.com/; ComponentLink2Description: XC2C128 Datasheet; ComponentLink2URL: http://www.xilinx.com/support/documentation/data_sheets/ds093.pdf; ComponentLink3Description: CP132 Package Drawing; ComponentLink3URL: http://www.xilinx.com/support/documentation/package_specs/cp132.pdf; ComponentLink4Description: CoolRunner-II Documents; ComponentLink4URL: http://www.xilinx.com/support/documentation/coolrunner-ii.htm
footprint CP132 (BGA, 132-Leads, Body 8x8mm, Pitch 0.5mm)
part A pins: G2 I/O (io), G3 I/O (io), H1 I/O (io), H2 I/O (io), H3 I/O (io), H12 I/O (io), H13 I/O (io), J1 I/O (io), J2 I/O (io), J12 I/O (io), J13 I/O (io), K1 I/O (io), K3 I/O, GCK0 (io), K13 I/O (io), K14 I/O (io), L2 I/O, GCK1 (io), L12 I/O (io), L13 I/O (io), L14 I/O (io), M2 I/O, CDRST (io), M3 I/O (io), M4 I/O (io), M5 I/O (io), M6 I/O (io), M7 I/O (io), M8 I/O (io), M11 I/O (io), M12 I/O (io), M13 I/O (io), M14 I/O (io), N2 I/O, GCK2 (io), N3 I/O (io), N5 I/O (io), N6 I/O (io), N7 I/O (io), N8 I/O (io), N11 I/O (io), N13 I/O (io), N14 I/O (io), P2 I/O, DGE (io), P3 I/O (io), P5 I/O (io), P6 I/O (io), P8 I/O (io), P9 I/O (io), P10 I/O (io), P11 I/O (io), P12 I/O (io), P14 I/O (io)
part B pins: A1 I/O, GTS2 (io), A3 I/O, GSR (io), A4 I/O (io), A5 I/O (io), A6 I/O (io), A8 I/O (io), A10 I/O (io), A11 I/O (io), A12 I/O (io), A13 I/O (io), B1 I/O (io), B2 I/O, GTS3 (io), B4 I/O (io), B5 I/O (io), B6 I/O (io), B7 I/O (io), B8 I/O (io), B11 I/O (io), B12 I/O (io), B13 I/O (io), C1 I/O (io), C2 I/O, GTS1 (io), C3 I/O, GTS0 (io), C5 I/O (io), C6 I/O (io), C7 I/O (io), C8 I/O (io), C9 I/O (io), C10 I/O (io), C11 I/O (io), C12 I/O (io), C14 I/O (io), D1 I/O (io), D2 I/O (io), D12 I/O (io), D13 I/O (io), D14 I/O (io), E1 I/O (io), E2 I/O (io), E3 I/O (io), E12 I/O (io), E13 I/O (io), F1 I/O (io), F2 I/O (io), F3 I/O (io), F12 I/O (io), F13 I/O (io), F14 I/O (io), G1 I/O (io), G12 I/O (io), G13 I/O (io)
part C pins: B9 TDO (out), M9 TDI (in), M10 TCK (in), N10 TMS (in)
part D pins: A2 VCC (power), A7 VCCIO2 (power), A14 VCCIO2 (power), C4 VCCIO2 (power), D3 VAUX (power), G14 VCCIO1 (power), J3 VCCIO1 (power), K12 VCC (power), P1 VCC (power), P7 VCCIO1 (power), P13 VCCIO1 (power)
part E pins: A9 GND (power), B3 GND (power), B14 GND (power), E14 GND (power), H14 GND (power), J14 GND (power), K2 GND (power), N1 GND (power), N9 GND (power), N12 GND (power), P4 GND (power)
part F pins: B10 NC, C13 NC, L1 NC, L3 NC, M1 NC, N4 NC
part A text: BANK 1
part B text: BANK 2

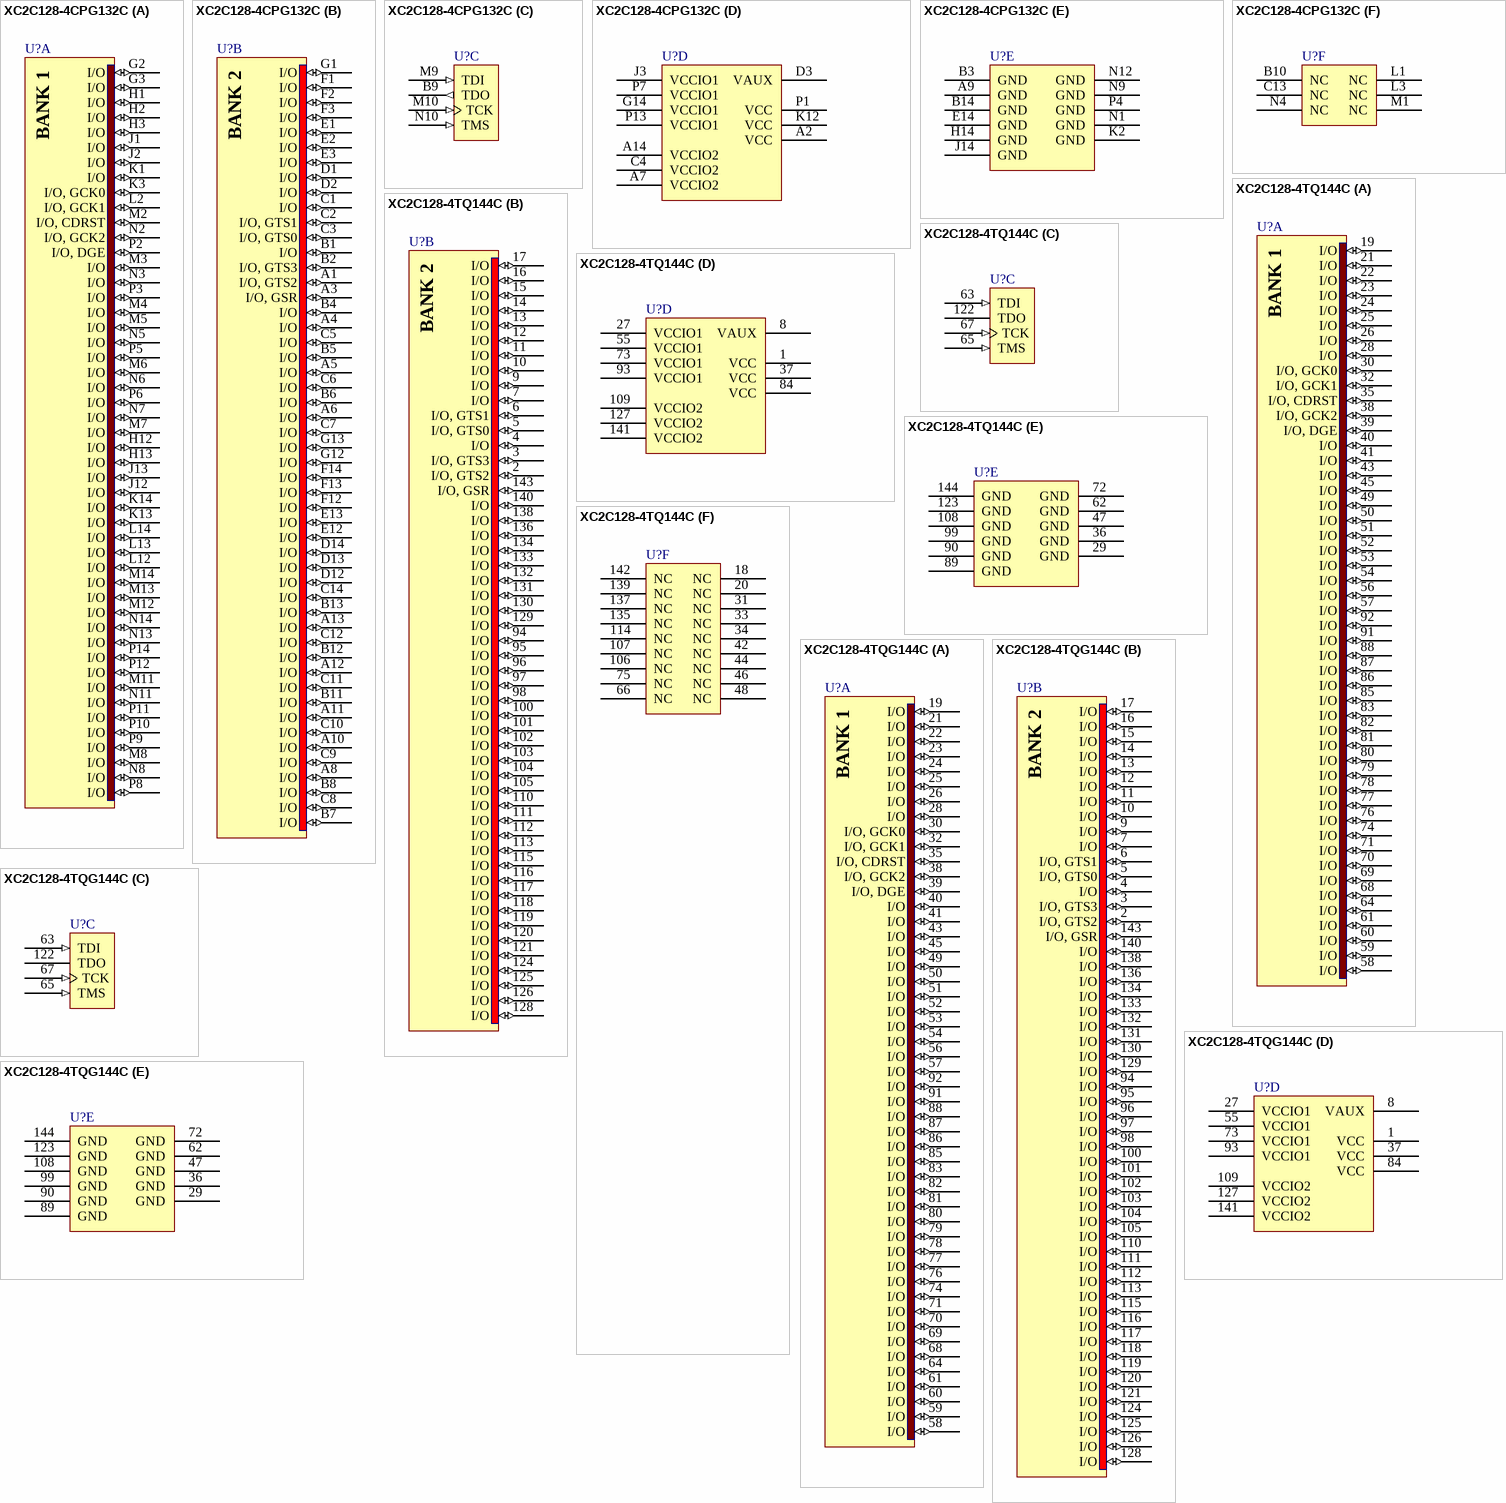
[diagram p17: symbols XC2C128-4CPG132C to XC2C128-4TQG144C]

## XC2C128-4CPG132C
designator U?
CoolRunner-II, 1.8V, 128 Macrocell CPLD, 132-Ball CSP, Pb-Free, Commercial Grade; DatasheetVersion: ver2.5, Oct-2004; PackageVersion: ver1.3, Jun-2008; PackageReference: CPG132; PackageDescription: 132-Ball Chip Scale Ball Grid Array 0.5 mm Pitch (CPG132) - Pb-Free; ComponentLink1Description: Manufacturer URL; ComponentLink1URL: http://www.xilinx.com/; ComponentLink2Description: XC2C128 Datasheet; ComponentLink2URL: http://www.xilinx.com/support/documentation/data_sheets/ds093.pdf; ComponentLink3Description: CPG132 Package Drawing; ComponentLink3URL: http://www.xilinx.com/support/documentation/package_specs/cp132.pdf; ComponentLink4Description: CoolRunner-II Documents; ComponentLink4URL: http://www.xilinx.com/support/documentation/coolrunner-ii.htm
footprint CPG132 (BGA, 132-Leads, Body 8x8mm, Pitch 0.5mm)
part A pins: G2 I/O (io), G3 I/O (io), H1 I/O (io), H2 I/O (io), H3 I/O (io), H12 I/O (io), H13 I/O (io), J1 I/O (io), J2 I/O (io), J12 I/O (io), J13 I/O (io), K1 I/O (io), K3 I/O, GCK0 (io), K13 I/O (io), K14 I/O (io), L2 I/O, GCK1 (io), L12 I/O (io), L13 I/O (io), L14 I/O (io), M2 I/O, CDRST (io), M3 I/O (io), M4 I/O (io), M5 I/O (io), M6 I/O (io), M7 I/O (io), M8 I/O (io), M11 I/O (io), M12 I/O (io), M13 I/O (io), M14 I/O (io), N2 I/O, GCK2 (io), N3 I/O (io), N5 I/O (io), N6 I/O (io), N7 I/O (io), N8 I/O (io), N11 I/O (io), N13 I/O (io), N14 I/O (io), P2 I/O, DGE (io), P3 I/O (io), P5 I/O (io), P6 I/O (io), P8 I/O (io), P9 I/O (io), P10 I/O (io), P11 I/O (io), P12 I/O (io), P14 I/O (io)
part B pins: A1 I/O, GTS2 (io), A3 I/O, GSR (io), A4 I/O (io), A5 I/O (io), A6 I/O (io), A8 I/O (io), A10 I/O (io), A11 I/O (io), A12 I/O (io), A13 I/O (io), B1 I/O (io), B2 I/O, GTS3 (io), B4 I/O (io), B5 I/O (io), B6 I/O (io), B7 I/O (io), B8 I/O (io), B11 I/O (io), B12 I/O (io), B13 I/O (io), C1 I/O (io), C2 I/O, GTS1 (io), C3 I/O, GTS0 (io), C5 I/O (io), C6 I/O (io), C7 I/O (io), C8 I/O (io), C9 I/O (io), C10 I/O (io), C11 I/O (io), C12 I/O (io), C14 I/O (io), D1 I/O (io), D2 I/O (io), D12 I/O (io), D13 I/O (io), D14 I/O (io), E1 I/O (io), E2 I/O (io), E3 I/O (io), E12 I/O (io), E13 I/O (io), F1 I/O (io), F2 I/O (io), F3 I/O (io), F12 I/O (io), F13 I/O (io), F14 I/O (io), G1 I/O (io), G12 I/O (io), G13 I/O (io)
part C pins: B9 TDO (out), M9 TDI (in), M10 TCK (in), N10 TMS (in)
part D pins: A2 VCC (power), A7 VCCIO2 (power), A14 VCCIO2 (power), C4 VCCIO2 (power), D3 VAUX (power), G14 VCCIO1 (power), J3 VCCIO1 (power), K12 VCC (power), P1 VCC (power), P7 VCCIO1 (power), P13 VCCIO1 (power)
part E pins: A9 GND (power), B3 GND (power), B14 GND (power), E14 GND (power), H14 GND (power), J14 GND (power), K2 GND (power), N1 GND (power), N9 GND (power), N12 GND (power), P4 GND (power)
part F pins: B10 NC, C13 NC, L1 NC, L3 NC, M1 NC, N4 NC
part A text: BANK 1
part B text: BANK 2